# Altium integrated library Microchip PIC24F.IntLib: 529 symbols (part 30 of 32)
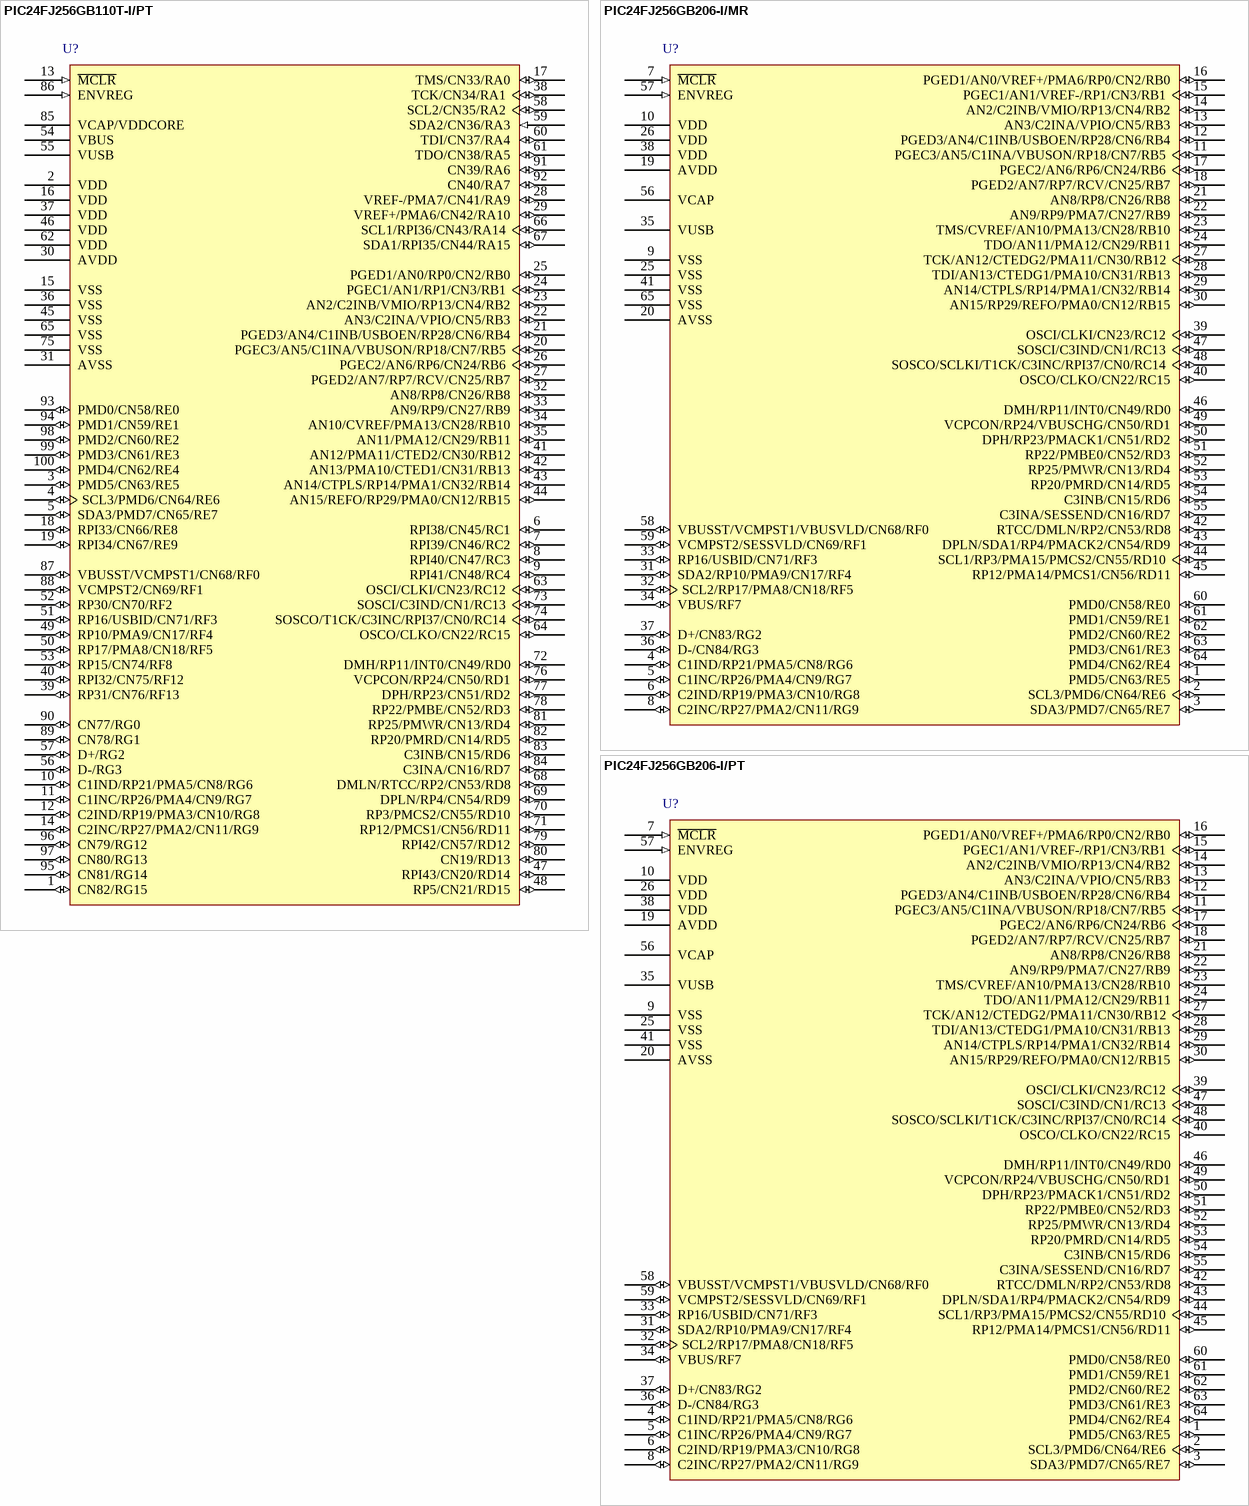
[diagram p150: symbols PIC24FJ256GB110T-I/PT to PIC24FJ256GB206-I/PT]

## PIC24FJ256GB110T-I/PT
designator U?
General Purpose 16-Bit Flash Microcontroller with USB On-The-Go, 256KB Flash, 16KB SRAM, 100-Pin TQFP (12x12x1 mm), Industrial Temperature, Tape and Reel; Manufacturer: Microchip; PartNumber: PIC24FJ256GB110T-I/PT; DatasheetVersion: revC, Dec-2009; PackageVersion: revBB, Aug-2009; PackageReference: TQFP-PT100; PackageDescription: 100-Lead Plastic Thin Quad Flatpack (PT) - 12x12x1mm Body, 2.00mm [TQFP]; Supplier 1: Digi-Key; Supplier Part Number 1: PIC24FJ256GB110T-I/PTTR-ND; Supplier 2: Mouser; Supplier Part Number 2: 579-PIC2256GB110TIPT; Mounting Technology: Surface Mount; ComponentLink1Description: Manufacturer URL; ComponentLink1URL: http://www.microchip.com/; ComponentLink2Description: Datasheet; ComponentLink2URL: http://ww1.microchip.com/downloads/en/DeviceDoc/39897c.pdf; ComponentLink3Description: Package Specification; ComponentLink3URL: http://www.microchip.com/stellent/groups/techpub_sg/documents/packagingspec/en012702.pdf
footprint TQFP-PT100_N (Thin QFP, 100-Leads, Body 12x12mm, Pitch 0.4mm, IPC Medium Density)
footprint TQFP-PT100_L (Thin QFP, 100-Leads, Body 12x12mm, Pitch 0.4mm, IPC High Density)
footprint TQFP-PT100_M (Thin QFP, 100-Leads, Body 12x12mm, Pitch 0.4mm, IPC Low Density)
pins: 1 CN82/RG15 (io), 2 VDD (power), 3 PMD5/CN63/RE5 (io), 4 SCL3/PMD6/CN64/RE6 (io), 5 SDA3/PMD7/CN65/RE7 (io), 6 RPI38/CN45/RC1 (io), 7 RPI39/CN46/RC2 (io), 8 RPI40/CN47/RC3 (io), 9 RPI41/CN48/RC4 (io), 10 C1IND/RP21/PMA5/CN8/RG6 (io), 11 C1INC/RP26/PMA4/CN9/RG7 (io), 12 C2IND/RP19/PMA3/CN10/RG8 (io), 13 ~{MCLR} (in), 14 C2INC/RP27/PMA2/CN11/RG9 (io), 15 VSS (power), 16 VDD (power), 17 TMS/CN33/RA0 (io), 18 RPI33/CN66/RE8 (io), 19 RPI34/CN67/RE9 (io), 20 PGEC3/AN5/C1INA/VBUSON/RP18/CN7/RB5 (io), 21 PGED3/AN4/C1INB/USBOEN/RP28/CN6/RB4 (io), 22 AN3/C2INA/VPIO/CN5/RB3 (io), 23 AN2/C2INB/VMIO/RP13/CN4/RB2 (io), 24 PGEC1/AN1/RP1/CN3/RB1 (io), 25 PGED1/AN0/RP0/CN2/RB0 (io), 26 PGEC2/AN6/RP6/CN24/RB6 (io), 27 PGED2/AN7/RP7/RCV/CN25/RB7 (io), 28 VREF-/PMA7/CN41/RA9 (io), 29 VREF+/PMA6/CN42/RA10 (io), 30 AVDD (power), 31 AVSS (power), 32 AN8/RP8/CN26/RB8 (io), 33 AN9/RP9/CN27/RB9 (io), 34 AN10/CVREF/PMA13/CN28/RB10 (io), 35 AN11/PMA12/CN29/RB11 (io), 36 VSS (power), 37 VDD (power), 38 TCK/CN34/RA1 (io), 39 RP31/CN76/RF13 (io), 40 RPI32/CN75/RF12 (io), 41 AN12/PMA11/CTED2/CN30/RB12 (io), 42 AN13/PMA10/CTED1/CN31/RB13 (io), 43 AN14/CTPLS/RP14/PMA1/CN32/RB14 (io), 44 AN15/REFO/RP29/PMA0/CN12/RB15 (io), 45 VSS (power), 46 VDD (power), 47 RPI43/CN20/RD14 (io), 48 RP5/CN21/RD15 (io), 49 RP10/PMA9/CN17/RF4 (io), 50 RP17/PMA8/CN18/RF5 (io), 51 RP16/USBID/CN71/RF3 (io), 52 RP30/CN70/RF2 (io), 53 RP15/CN74/RF8 (io), 54 VBUS (power), 55 VUSB (power), 56 D-/RG3 (io), 57 D+/RG2 (io), 58 SCL2/CN35/RA2 (io), 59 SDA2/CN36/RA3 (in), 60 TDI/CN37/RA4 (io), 61 TDO/CN38/RA5 (io), 62 VDD (power), 63 OSCI/CLKI/CN23/RC12 (io), 64 OSCO/CLKO/CN22/RC15 (io), 65 VSS (power), 66 SCL1/RPI36/CN43/RA14 (io), 67 SDA1/RPI35/CN44/RA15 (io), 68 DMLN/RTCC/RP2/CN53/RD8 (io), 69 DPLN/RP4/CN54/RD9 (io), 70 RP3/PMCS2/CN55/RD10 (io), 71 RP12/PMCS1/CN56/RD11 (io), 72 DMH/RP11/INT0/CN49/RD0 (io), 73 SOSCI/C3IND/CN1/RC13 (io), 74 SOSCO/T1CK/C3INC/RPI37/CN0/RC14 (io), 75 VSS (power), 76 VCPCON/RP24/CN50/RD1 (io), 77 DPH/RP23/CN51/RD2 (io), 78 RP22/PMBE/CN52/RD3 (io), 79 RPI42/CN57/RD12 (io), 80 CN19/RD13 (io), 81 RP25/PMWR/CN13/RD4 (io), 82 RP20/PMRD/CN14/RD5 (io), 83 C3INB/CN15/RD6 (io), 84 C3INA/CN16/RD7 (io), 85 VCAP/VDDCORE (power), 86 ENVREG (in), 87 VBUSST/VCMPST1/CN68/RF0 (io), 88 VCMPST2/CN69/RF1 (io), 89 CN78/RG1 (io), 90 CN77/RG0 (io), 91 CN39/RA6 (io), 92 CN40/RA7 (io), 93 PMD0/CN58/RE0 (io), 94 PMD1/CN59/RE1 (io), 95 CN81/RG14 (io), 96 CN79/RG12 (io), 97 CN80/RG13 (io), 98 PMD2/CN60/RE2 (io), 99 PMD3/CN61/RE3 (io), 100 PMD4/CN62/RE4 (io)

## PIC24FJ256GB206-I/MR
designator U?
16-Bit Flash Microcontroller with USB On-The-Go, 256KB Flash, 96KB SRAM, 64-Pin QFN, Industrial Temperature; Manufacturer: Microchip; PartNumber: PIC24FJ256GB206-I/MR; DatasheetVersion: revA, May-2010; PackageVersion: revBB, Aug-2009; PackageReference: QFN-MR64; PackageDescription: 64-Lead Plastic Quad Flat, No Lead Package (MR) - 9x9x0.9 mm Body [QFN]; Supplier 1: Digi-Key; Supplier Part Number 1: PIC24FJ256GB206-I/MR-ND; Supplier 2: Farnell; Supplier Part Number 2: 1828975; Supplier 3: Newark; Supplier Part Number 3: 73R8662; Supplier 4: Mouser; Supplier Part Number 4: 579-PIC24FJ6GB206IMR; Mounting Technology: Surface Mount; ComponentLink1Description: Manufacturer URL; ComponentLink1URL: http://www.microchip.com/; ComponentLink2Description: Datasheet; ComponentLink2URL: http://ww1.microchip.com/downloads/en/DeviceDoc/39975a.pdf; ComponentLink3Description: Package Specification; ComponentLink3URL: http://www.microchip.com/stellent/groups/techpub_sg/documents/packagingspec/en012702.pdf
footprint QFN-MR64_N (QFN, 64-Leads, Body 9x9mm, Pitch 0.5mm, Thermal Pad 7.5x7.5mm, IPC Medium Density)
footprint QFN-MR64_L (QFN, 64-Leads, Body 9x9mm, Pitch 0.5mm, Thermal Pad 7.5x7.5mm, IPC High Density)
footprint QFN-MR64_M (QFN, 64-Leads, Body 9x9mm, Pitch 0.5mm, Thermal Pad 7.5x7.5mm, IPC Low Density)
pins: 1 PMD5/CN63/RE5 (io), 2 SCL3/PMD6/CN64/RE6 (io), 3 SDA3/PMD7/CN65/RE7 (io), 4 C1IND/RP21/PMA5/CN8/RG6 (io), 5 C1INC/RP26/PMA4/CN9/RG7 (io), 6 C2IND/RP19/PMA3/CN10/RG8 (io), 7 ~{MCLR} (in), 8 C2INC/RP27/PMA2/CN11/RG9 (io), 9 VSS (power), 10 VDD (power), 11 PGEC3/AN5/C1INA/VBUSON/RP18/CN7/RB5 (io), 12 PGED3/AN4/C1INB/USBOEN/RP28/CN6/RB4 (io), 13 AN3/C2INA/VPIO/CN5/RB3 (io), 14 AN2/C2INB/VMIO/RP13/CN4/RB2 (io), 15 PGEC1/AN1/VREF-/RP1/CN3/RB1 (io), 16 PGED1/AN0/VREF+/PMA6/RP0/CN2/RB0 (io), 17 PGEC2/AN6/RP6/CN24/RB6 (io), 18 PGED2/AN7/RP7/RCV/CN25/RB7 (io), 19 AVDD (power), 20 AVSS (power), 21 AN8/RP8/CN26/RB8 (io), 22 AN9/RP9/PMA7/CN27/RB9 (io), 23 TMS/CVREF/AN10/PMA13/CN28/RB10 (io), 24 TDO/AN11/PMA12/CN29/RB11 (io), 25 VSS (power), 26 VDD (power), 27 TCK/AN12/CTEDG2/PMA11/CN30/RB12 (io), 28 TDI/AN13/CTEDG1/PMA10/CN31/RB13 (io), 29 AN14/CTPLS/RP14/PMA1/CN32/RB14 (io), 30 AN15/RP29/REFO/PMA0/CN12/RB15 (io), 31 SDA2/RP10/PMA9/CN17/RF4 (io), 32 SCL2/RP17/PMA8/CN18/RF5 (io), 33 RP16/USBID/CN71/RF3 (io), 34 VBUS/RF7 (io), 35 VUSB (power), 36 D-/CN84/RG3 (io), 37 D+/CN83/RG2 (io), 38 VDD (power), 39 OSCI/CLKI/CN23/RC12 (io), 40 OSCO/CLKO/CN22/RC15 (io), 41 VSS (power), 42 RTCC/DMLN/RP2/CN53/RD8 (io), 43 DPLN/SDA1/RP4/PMACK2/CN54/RD9 (io), 44 SCL1/RP3/PMA15/PMCS2/CN55/RD10 (io), 45 RP12/PMA14/PMCS1/CN56/RD11 (io), 46 DMH/RP11/INT0/CN49/RD0 (io), 47 SOSCI/C3IND/CN1/RC13 (io), 48 SOSCO/SCLKI/T1CK/C3INC/RPI37/CN0/RC14 (io), 49 VCPCON/RP24/VBUSCHG/CN50/RD1 (io), 50 DPH/RP23/PMACK1/CN51/RD2 (io), 51 RP22/PMBE0/CN52/RD3 (io), 52 RP25/PMWR/CN13/RD4 (io), 53 RP20/PMRD/CN14/RD5 (io), 54 C3INB/CN15/RD6 (io), 55 C3INA/SESSEND/CN16/RD7 (io), 56 VCAP (power), 57 ENVREG (in), 58 VBUSST/VCMPST1/VBUSVLD/CN68/RF0 (io), 59 VCMPST2/SESSVLD/CN69/RF1 (io), 60 PMD0/CN58/RE0 (io), 61 PMD1/CN59/RE1 (io), 62 PMD2/CN60/RE2 (io), 63 PMD3/CN61/RE3 (io), 64 PMD4/CN62/RE4 (io), 65 VSS (power)

## PIC24FJ256GB206-I/PT
designator U?
16-Bit Flash Microcontroller with USB On-The-Go, 256KB Flash, 96KB SRAM, 64-Pin TQFP, Industrial Temperature; Manufacturer: Microchip; PartNumber: PIC24FJ256GB206-I/PT; DatasheetVersion: revA, May-2010; PackageVersion: revBB, Aug-2009; PackageReference: TQFP-PT64; PackageDescription: 64-Lead Thin Plastic Quad Flat Pack (PT) - 10x10x1mm Body, 2.00mm [TQFP]; Supplier 1: Digi-Key; Supplier Part Number 1: PIC24FJ256GB206-I/PT-ND; Supplier 2: Farnell; Supplier Part Number 2: 1823290; Supplier 3: Farnell; Supplier Part Number 3: 1823290MPKG; Supplier 4: Newark; Supplier Part Number 4: 73R8663; Supplier 5: Mouser; Supplier Part Number 5: 579-PIC24FJ256GB2IPT; Mounting Technology: Surface Mount; Code_JEDEC: MS-026; ComponentLink1Description: Manufacturer URL; ComponentLink1URL: http://www.microchip.com/; ComponentLink2Description: Datasheet; ComponentLink2URL: http://ww1.microchip.com/downloads/en/DeviceDoc/39975a.pdf; ComponentLink3Description: Package Specification; ComponentLink3URL: http://www.microchip.com/stellent/groups/techpub_sg/documents/packagingspec/en012702.pdf
footprint TQFP-PT64_N (Thin QFP, 64-Leads, Body 10x10mm, Pitch 0.5mm, IPC Medium Density)
footprint TQFP-PT64_L (Thin QFP, 64-Leads, Body 10x10mm, Pitch 0.5mm, IPC High Density)
footprint TQFP-PT64_M (Thin QFP, 64-Leads, Body 10x10mm, Pitch 0.5mm, IPC Low Density)
pins: 1 PMD5/CN63/RE5 (io), 2 SCL3/PMD6/CN64/RE6 (io), 3 SDA3/PMD7/CN65/RE7 (io), 4 C1IND/RP21/PMA5/CN8/RG6 (io), 5 C1INC/RP26/PMA4/CN9/RG7 (io), 6 C2IND/RP19/PMA3/CN10/RG8 (io), 7 ~{MCLR} (in), 8 C2INC/RP27/PMA2/CN11/RG9 (io), 9 VSS (power), 10 VDD (power), 11 PGEC3/AN5/C1INA/VBUSON/RP18/CN7/RB5 (io), 12 PGED3/AN4/C1INB/USBOEN/RP28/CN6/RB4 (io), 13 AN3/C2INA/VPIO/CN5/RB3 (io), 14 AN2/C2INB/VMIO/RP13/CN4/RB2 (io), 15 PGEC1/AN1/VREF-/RP1/CN3/RB1 (io), 16 PGED1/AN0/VREF+/PMA6/RP0/CN2/RB0 (io), 17 PGEC2/AN6/RP6/CN24/RB6 (io), 18 PGED2/AN7/RP7/RCV/CN25/RB7 (io), 19 AVDD (power), 20 AVSS (power), 21 AN8/RP8/CN26/RB8 (io), 22 AN9/RP9/PMA7/CN27/RB9 (io), 23 TMS/CVREF/AN10/PMA13/CN28/RB10 (io), 24 TDO/AN11/PMA12/CN29/RB11 (io), 25 VSS (power), 26 VDD (power), 27 TCK/AN12/CTEDG2/PMA11/CN30/RB12 (io), 28 TDI/AN13/CTEDG1/PMA10/CN31/RB13 (io), 29 AN14/CTPLS/RP14/PMA1/CN32/RB14 (io), 30 AN15/RP29/REFO/PMA0/CN12/RB15 (io), 31 SDA2/RP10/PMA9/CN17/RF4 (io), 32 SCL2/RP17/PMA8/CN18/RF5 (io), 33 RP16/USBID/CN71/RF3 (io), 34 VBUS/RF7 (io), 35 VUSB (power), 36 D-/CN84/RG3 (io), 37 D+/CN83/RG2 (io), 38 VDD (power), 39 OSCI/CLKI/CN23/RC12 (io), 40 OSCO/CLKO/CN22/RC15 (io), 41 VSS (power), 42 RTCC/DMLN/RP2/CN53/RD8 (io), 43 DPLN/SDA1/RP4/PMACK2/CN54/RD9 (io), 44 SCL1/RP3/PMA15/PMCS2/CN55/RD10 (io), 45 RP12/PMA14/PMCS1/CN56/RD11 (io), 46 DMH/RP11/INT0/CN49/RD0 (io), 47 SOSCI/C3IND/CN1/RC13 (io), 48 SOSCO/SCLKI/T1CK/C3INC/RPI37/CN0/RC14 (io), 49 VCPCON/RP24/VBUSCHG/CN50/RD1 (io), 50 DPH/RP23/PMACK1/CN51/RD2 (io), 51 RP22/PMBE0/CN52/RD3 (io), 52 RP25/PMWR/CN13/RD4 (io), 53 RP20/PMRD/CN14/RD5 (io), 54 C3INB/CN15/RD6 (io), 55 C3INA/SESSEND/CN16/RD7 (io), 56 VCAP (power), 57 ENVREG (in), 58 VBUSST/VCMPST1/VBUSVLD/CN68/RF0 (io), 59 VCMPST2/SESSVLD/CN69/RF1 (io), 60 PMD0/CN58/RE0 (io), 61 PMD1/CN59/RE1 (io), 62 PMD2/CN60/RE2 (io), 63 PMD3/CN61/RE3 (io), 64 PMD4/CN62/RE4 (io)

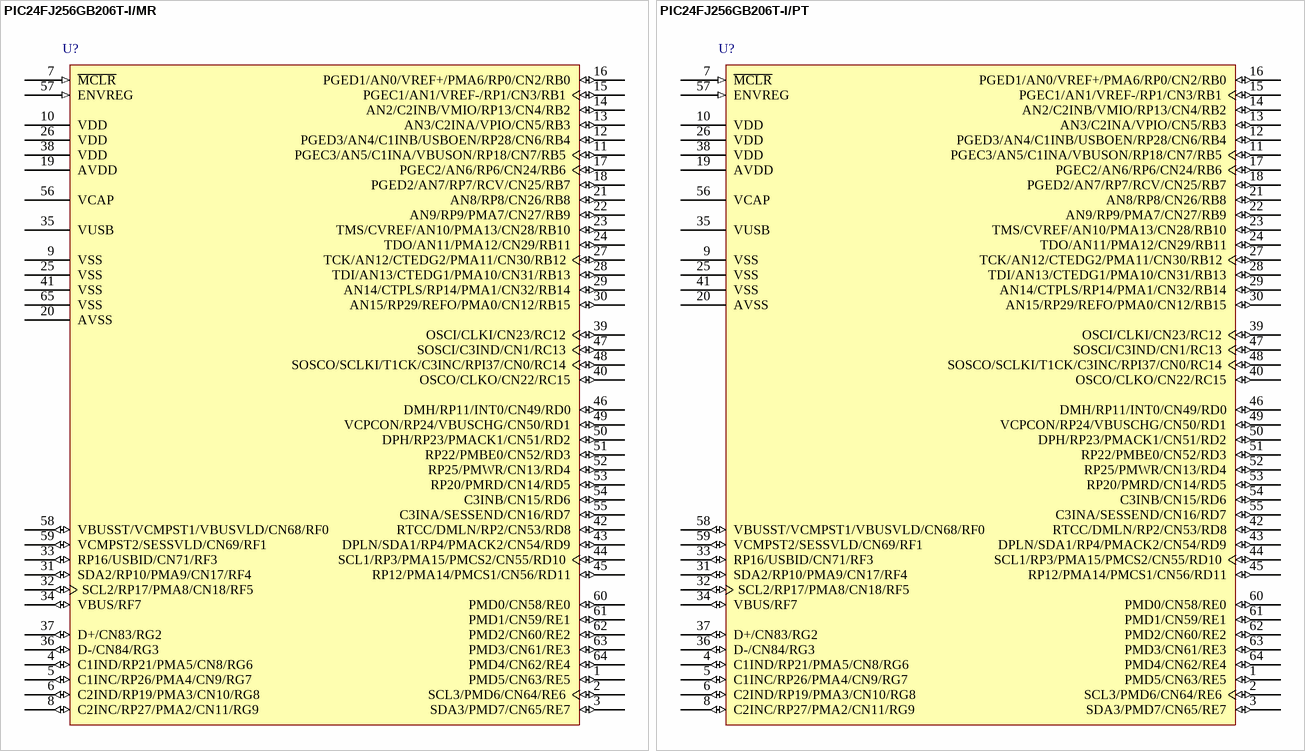
[diagram p115: symbols PIC24FJ256GB206T-I/MR to PIC24FJ256GB206T-I/PT]

## PIC24FJ256GB206T-I/MR
designator U?
16-Bit Flash Microcontroller with USB On-The-Go, 256KB Flash, 96KB SRAM, 64-Pin QFN, Industrial Temperature, Tape and Reel; Manufacturer: Microchip; PartNumber: PIC24FJ256GB206T-I/MR; DatasheetVersion: revA, May-2010; PackageVersion: revBB, Aug-2009; PackageReference: QFN-MR64; PackageDescription: 64-Lead Plastic Quad Flat, No Lead Package (MR) - 9x9x0.9 mm Body [QFN]; Supplier 1: Digi-Key; Supplier Part Number 1: PIC24FJ256GB206T-I/MR-ND; Supplier 2: Mouser; Supplier Part Number 2: 579-PIC24FJ25B26TIMR; Mounting Technology: Surface Mount; ComponentLink1Description: Manufacturer URL; ComponentLink1URL: http://www.microchip.com/; ComponentLink2Description: Datasheet; ComponentLink2URL: http://ww1.microchip.com/downloads/en/DeviceDoc/39975a.pdf; ComponentLink3Description: Package Specification; ComponentLink3URL: http://www.microchip.com/stellent/groups/techpub_sg/documents/packagingspec/en012702.pdf
footprint QFN-MR64_N (QFN, 64-Leads, Body 9x9mm, Pitch 0.5mm, Thermal Pad 7.5x7.5mm, IPC Medium Density)
footprint QFN-MR64_L (QFN, 64-Leads, Body 9x9mm, Pitch 0.5mm, Thermal Pad 7.5x7.5mm, IPC High Density)
footprint QFN-MR64_M (QFN, 64-Leads, Body 9x9mm, Pitch 0.5mm, Thermal Pad 7.5x7.5mm, IPC Low Density)
pins: 1 PMD5/CN63/RE5 (io), 2 SCL3/PMD6/CN64/RE6 (io), 3 SDA3/PMD7/CN65/RE7 (io), 4 C1IND/RP21/PMA5/CN8/RG6 (io), 5 C1INC/RP26/PMA4/CN9/RG7 (io), 6 C2IND/RP19/PMA3/CN10/RG8 (io), 7 ~{MCLR} (in), 8 C2INC/RP27/PMA2/CN11/RG9 (io), 9 VSS (power), 10 VDD (power), 11 PGEC3/AN5/C1INA/VBUSON/RP18/CN7/RB5 (io), 12 PGED3/AN4/C1INB/USBOEN/RP28/CN6/RB4 (io), 13 AN3/C2INA/VPIO/CN5/RB3 (io), 14 AN2/C2INB/VMIO/RP13/CN4/RB2 (io), 15 PGEC1/AN1/VREF-/RP1/CN3/RB1 (io), 16 PGED1/AN0/VREF+/PMA6/RP0/CN2/RB0 (io), 17 PGEC2/AN6/RP6/CN24/RB6 (io), 18 PGED2/AN7/RP7/RCV/CN25/RB7 (io), 19 AVDD (power), 20 AVSS (power), 21 AN8/RP8/CN26/RB8 (io), 22 AN9/RP9/PMA7/CN27/RB9 (io), 23 TMS/CVREF/AN10/PMA13/CN28/RB10 (io), 24 TDO/AN11/PMA12/CN29/RB11 (io), 25 VSS (power), 26 VDD (power), 27 TCK/AN12/CTEDG2/PMA11/CN30/RB12 (io), 28 TDI/AN13/CTEDG1/PMA10/CN31/RB13 (io), 29 AN14/CTPLS/RP14/PMA1/CN32/RB14 (io), 30 AN15/RP29/REFO/PMA0/CN12/RB15 (io), 31 SDA2/RP10/PMA9/CN17/RF4 (io), 32 SCL2/RP17/PMA8/CN18/RF5 (io), 33 RP16/USBID/CN71/RF3 (io), 34 VBUS/RF7 (io), 35 VUSB (power), 36 D-/CN84/RG3 (io), 37 D+/CN83/RG2 (io), 38 VDD (power), 39 OSCI/CLKI/CN23/RC12 (io), 40 OSCO/CLKO/CN22/RC15 (io), 41 VSS (power), 42 RTCC/DMLN/RP2/CN53/RD8 (io), 43 DPLN/SDA1/RP4/PMACK2/CN54/RD9 (io), 44 SCL1/RP3/PMA15/PMCS2/CN55/RD10 (io), 45 RP12/PMA14/PMCS1/CN56/RD11 (io), 46 DMH/RP11/INT0/CN49/RD0 (io), 47 SOSCI/C3IND/CN1/RC13 (io), 48 SOSCO/SCLKI/T1CK/C3INC/RPI37/CN0/RC14 (io), 49 VCPCON/RP24/VBUSCHG/CN50/RD1 (io), 50 DPH/RP23/PMACK1/CN51/RD2 (io), 51 RP22/PMBE0/CN52/RD3 (io), 52 RP25/PMWR/CN13/RD4 (io), 53 RP20/PMRD/CN14/RD5 (io), 54 C3INB/CN15/RD6 (io), 55 C3INA/SESSEND/CN16/RD7 (io), 56 VCAP (power), 57 ENVREG (in), 58 VBUSST/VCMPST1/VBUSVLD/CN68/RF0 (io), 59 VCMPST2/SESSVLD/CN69/RF1 (io), 60 PMD0/CN58/RE0 (io), 61 PMD1/CN59/RE1 (io), 62 PMD2/CN60/RE2 (io), 63 PMD3/CN61/RE3 (io), 64 PMD4/CN62/RE4 (io), 65 VSS (power)

## PIC24FJ256GB206T-I/PT
designator U?
16-Bit Flash Microcontroller with USB On-The-Go, 256KB Flash, 96KB SRAM, 64-Pin TQFP, Industrial Temperature, Tape and Reel; Manufacturer: Microchip; PartNumber: PIC24FJ256GB206T-I/PT; DatasheetVersion: revA, May-2010; PackageVersion: revBB, Aug-2009; PackageReference: TQFP-PT64; PackageDescription: 64-Lead Thin Plastic Quad Flat Pack (PT) - 10x10x1mm Body, 2.00mm [TQFP]; Supplier 1: Digi-Key; Supplier Part Number 1: PIC24FJ256GB206T-I/PT-ND; Supplier 2: Newark; Supplier Part Number 2: 73R8665; Supplier 3: Mouser; Supplier Part Number 3: 579-PIC24FJ256G20IPT; Mounting Technology: Surface Mount; Code_JEDEC: MS-026; ComponentLink1Description: Manufacturer URL; ComponentLink1URL: http://www.microchip.com/; ComponentLink2Description: Datasheet; ComponentLink2URL: http://ww1.microchip.com/downloads/en/DeviceDoc/39975a.pdf; ComponentLink3Description: Package Specification; ComponentLink3URL: http://www.microchip.com/stellent/groups/techpub_sg/documents/packagingspec/en012702.pdf
footprint TQFP-PT64_N (Thin QFP, 64-Leads, Body 10x10mm, Pitch 0.5mm, IPC Medium Density)
footprint TQFP-PT64_L (Thin QFP, 64-Leads, Body 10x10mm, Pitch 0.5mm, IPC High Density)
footprint TQFP-PT64_M (Thin QFP, 64-Leads, Body 10x10mm, Pitch 0.5mm, IPC Low Density)
pins: 1 PMD5/CN63/RE5 (io), 2 SCL3/PMD6/CN64/RE6 (io), 3 SDA3/PMD7/CN65/RE7 (io), 4 C1IND/RP21/PMA5/CN8/RG6 (io), 5 C1INC/RP26/PMA4/CN9/RG7 (io), 6 C2IND/RP19/PMA3/CN10/RG8 (io), 7 ~{MCLR} (in), 8 C2INC/RP27/PMA2/CN11/RG9 (io), 9 VSS (power), 10 VDD (power), 11 PGEC3/AN5/C1INA/VBUSON/RP18/CN7/RB5 (io), 12 PGED3/AN4/C1INB/USBOEN/RP28/CN6/RB4 (io), 13 AN3/C2INA/VPIO/CN5/RB3 (io), 14 AN2/C2INB/VMIO/RP13/CN4/RB2 (io), 15 PGEC1/AN1/VREF-/RP1/CN3/RB1 (io), 16 PGED1/AN0/VREF+/PMA6/RP0/CN2/RB0 (io), 17 PGEC2/AN6/RP6/CN24/RB6 (io), 18 PGED2/AN7/RP7/RCV/CN25/RB7 (io), 19 AVDD (power), 20 AVSS (power), 21 AN8/RP8/CN26/RB8 (io), 22 AN9/RP9/PMA7/CN27/RB9 (io), 23 TMS/CVREF/AN10/PMA13/CN28/RB10 (io), 24 TDO/AN11/PMA12/CN29/RB11 (io), 25 VSS (power), 26 VDD (power), 27 TCK/AN12/CTEDG2/PMA11/CN30/RB12 (io), 28 TDI/AN13/CTEDG1/PMA10/CN31/RB13 (io), 29 AN14/CTPLS/RP14/PMA1/CN32/RB14 (io), 30 AN15/RP29/REFO/PMA0/CN12/RB15 (io), 31 SDA2/RP10/PMA9/CN17/RF4 (io), 32 SCL2/RP17/PMA8/CN18/RF5 (io), 33 RP16/USBID/CN71/RF3 (io), 34 VBUS/RF7 (io), 35 VUSB (power), 36 D-/CN84/RG3 (io), 37 D+/CN83/RG2 (io), 38 VDD (power), 39 OSCI/CLKI/CN23/RC12 (io), 40 OSCO/CLKO/CN22/RC15 (io), 41 VSS (power), 42 RTCC/DMLN/RP2/CN53/RD8 (io), 43 DPLN/SDA1/RP4/PMACK2/CN54/RD9 (io), 44 SCL1/RP3/PMA15/PMCS2/CN55/RD10 (io), 45 RP12/PMA14/PMCS1/CN56/RD11 (io), 46 DMH/RP11/INT0/CN49/RD0 (io), 47 SOSCI/C3IND/CN1/RC13 (io), 48 SOSCO/SCLKI/T1CK/C3INC/RPI37/CN0/RC14 (io), 49 VCPCON/RP24/VBUSCHG/CN50/RD1 (io), 50 DPH/RP23/PMACK1/CN51/RD2 (io), 51 RP22/PMBE0/CN52/RD3 (io), 52 RP25/PMWR/CN13/RD4 (io), 53 RP20/PMRD/CN14/RD5 (io), 54 C3INB/CN15/RD6 (io), 55 C3INA/SESSEND/CN16/RD7 (io), 56 VCAP (power), 57 ENVREG (in), 58 VBUSST/VCMPST1/VBUSVLD/CN68/RF0 (io), 59 VCMPST2/SESSVLD/CN69/RF1 (io), 60 PMD0/CN58/RE0 (io), 61 PMD1/CN59/RE1 (io), 62 PMD2/CN60/RE2 (io), 63 PMD3/CN61/RE3 (io), 64 PMD4/CN62/RE4 (io)

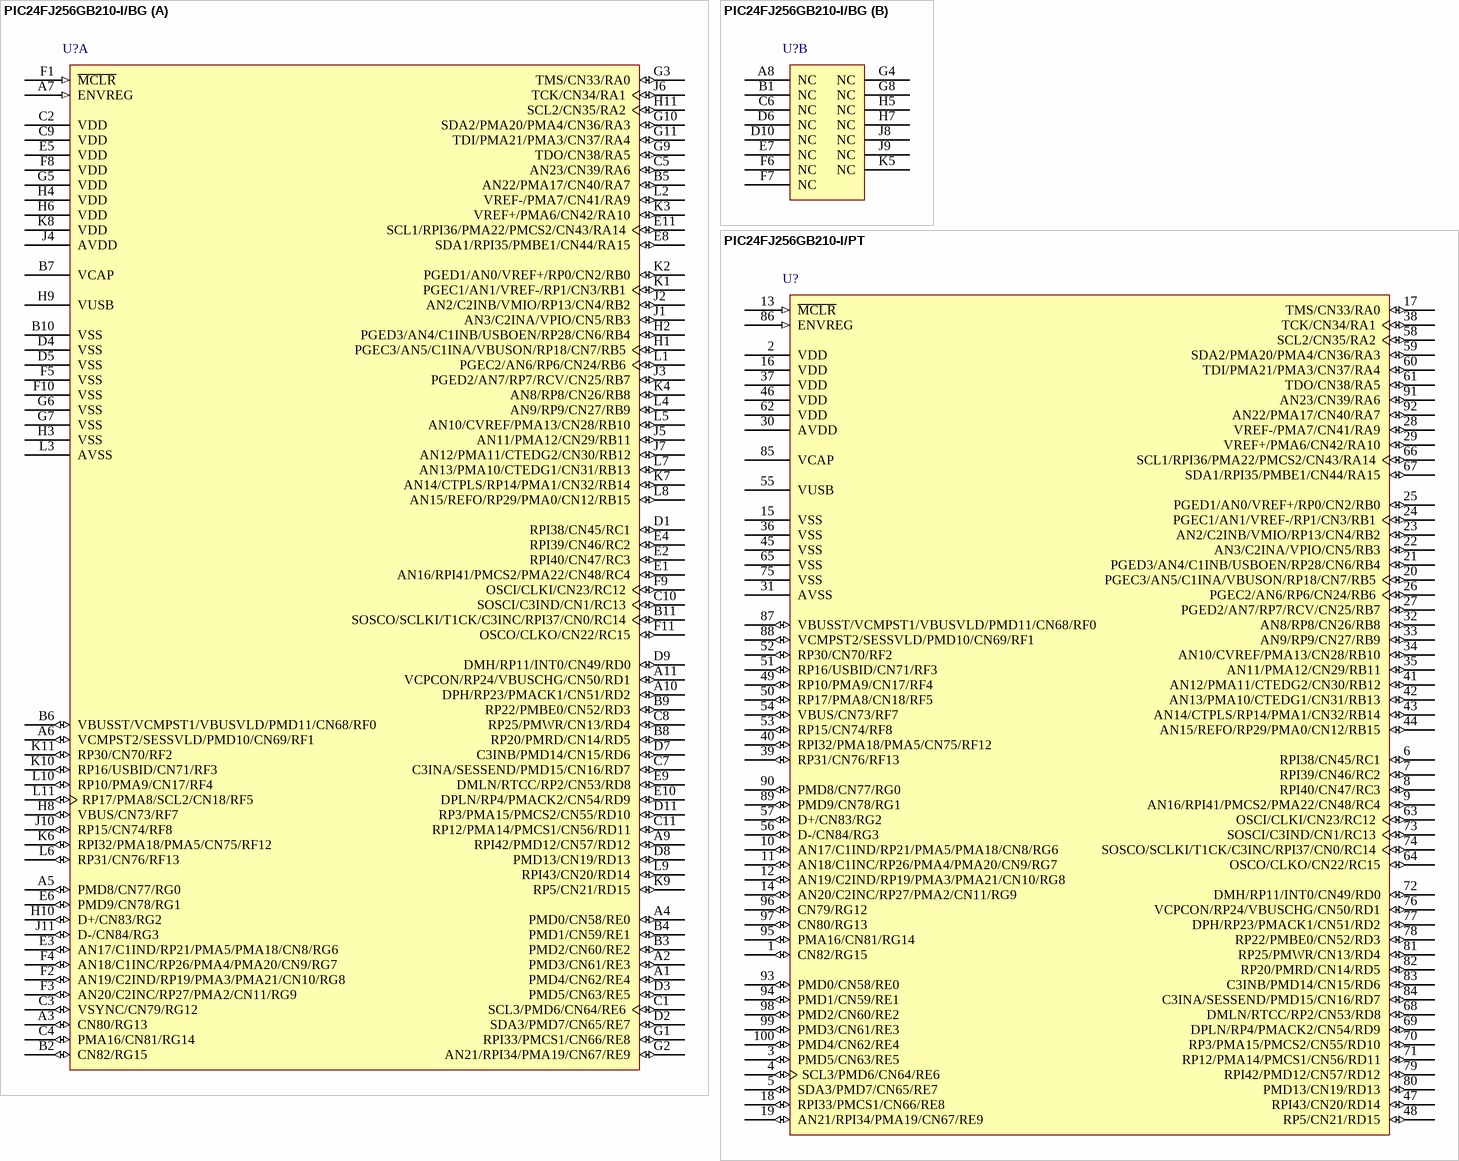
[diagram p116: symbols PIC24FJ256GB210-I/BG to PIC24FJ256GB210-I/PT]

## PIC24FJ256GB210-I/BG
designator U?
16-Bit Flash Microcontroller with USB On-The-Go, 256KB Flash, 96KB SRAM, 121-Pin XBGA, Industrial Temperature; Manufacturer: Microchip; PartNumber: PIC24FJ256GB210-I/BG; DatasheetVersion: revA, May-2010; PackageVersion: revBB, Aug-2009; PackageReference: XBGA-BG121; PackageDescription: 121-Lead Plastic Thin Profile Ball Grid Array (BG) - 10x10x1.10 mm Body [XBGA]; Supplier 1: Digi-Key; Supplier Part Number 1: PIC24FJ256GB210-I/BG-ND; Supplier 2: Farnell; Supplier Part Number 2: 1823278; Supplier 3: Mouser; Supplier Part Number 3: 579-PIC24FJ256GB0IBG; Mounting Technology: Surface Mount; ComponentLink1Description: Manufacturer URL; ComponentLink1URL: http://www.microchip.com/; ComponentLink2Description: Datasheet; ComponentLink2URL: http://ww1.microchip.com/downloads/en/DeviceDoc/39975a.pdf; ComponentLink3Description: Package Specification; ComponentLink3URL: http://www.microchip.com/stellent/groups/techpub_sg/documents/packagingspec/en012702.pdf
footprint XBGA-BG121 (BGA, 121-Leads, Body 10x10mm, Pitch 0.8mm)
part A pins: A1 PMD4/CN62/RE4 (io), A2 PMD3/CN61/RE3 (io), A3 CN80/RG13 (io), A4 PMD0/CN58/RE0 (io), A5 PMD8/CN77/RG0 (io), A6 VCMPST2/SESSVLD/PMD10/CN69/RF1 (io), A7 ENVREG (in), A9 RPI42/PMD12/CN57/RD12 (io), A10 DPH/RP23/PMACK1/CN51/RD2 (io), A11 VCPCON/RP24/VBUSCHG/CN50/RD1 (io), B2 CN82/RG15 (io), B3 PMD2/CN60/RE2 (io), B4 PMD1/CN59/RE1 (io), B5 AN22/PMA17/CN40/RA7 (io), B6 VBUSST/VCMPST1/VBUSVLD/PMD11/CN68/RF0 (io), B7 VCAP (power), B8 RP20/PMRD/CN14/RD5 (io), B9 RP22/PMBE0/CN52/RD3 (io), B10 VSS (power), B11 SOSCO/SCLKI/T1CK/C3INC/RPI37/CN0/RC14 (io), C1 SCL3/PMD6/CN64/RE6 (io), C2 VDD (power), C3 VSYNC/CN79/RG12 (io), C4 PMA16/CN81/RG14 (io), C5 AN23/CN39/RA6 (io), C7 C3INA/SESSEND/PMD15/CN16/RD7 (io), C8 RP25/PMWR/CN13/RD4 (io), C9 VDD (power), C10 SOSCI/C3IND/CN1/RC13 (io), C11 RP12/PMA14/PMCS1/CN56/RD11 (io), D1 RPI38/CN45/RC1 (io), D2 SDA3/PMD7/CN65/RE7 (io), D3 PMD5/CN63/RE5 (io), D4 VSS (power), D5 VSS (power), D7 C3INB/PMD14/CN15/RD6 (io), D8 PMD13/CN19/RD13 (io), D9 DMH/RP11/INT0/CN49/RD0 (io), D11 RP3/PMA15/PMCS2/CN55/RD10 (io), E1 AN16/RPI41/PMCS2/PMA22/CN48/RC4 (io), E2 RPI40/CN47/RC3 (io), E3 AN17/C1IND/RP21/PMA5/PMA18/CN8/RG6 (io), E4 RPI39/CN46/RC2 (io), E5 VDD (power), E6 PMD9/CN78/RG1 (io), E8 SDA1/RPI35/PMBE1/CN44/RA15 (io), E9 DMLN/RTCC/RP2/CN53/RD8 (io), E10 DPLN/RP4/PMACK2/CN54/RD9 (io), E11 SCL1/RPI36/PMA22/PMCS2/CN43/RA14 (io), F1 ~{MCLR} (in), F2 AN19/C2IND/RP19/PMA3/PMA21/CN10/RG8 (io), F3 AN20/C2INC/RP27/PMA2/CN11/RG9 (io), F4 AN18/C1INC/RP26/PMA4/PMA20/CN9/RG7 (io), F5 VSS (power), F8 VDD (power), F9 OSCI/CLKI/CN23/RC12 (io), F10 VSS (power), F11 OSCO/CLKO/CN22/RC15 (io), G1 RPI33/PMCS1/CN66/RE8 (io), G2 AN21/RPI34/PMA19/CN67/RE9 (io), G3 TMS/CN33/RA0 (io), G5 VDD (power), G6 VSS (power), G7 VSS (power), G9 TDO/CN38/RA5 (io), G10 SDA2/PMA20/PMA4/CN36/RA3 (io), G11 TDI/PMA21/PMA3/CN37/RA4 (io), H1 PGEC3/AN5/C1INA/VBUSON/RP18/CN7/RB5 (io), H2 PGED3/AN4/C1INB/USBOEN/RP28/CN6/RB4 (io), H3 VSS (power), H4 VDD (power), H6 VDD (power), H8 VBUS/CN73/RF7 (io), H9 VUSB (power), H10 D+/CN83/RG2 (io), H11 SCL2/CN35/RA2 (io), J1 AN3/C2INA/VPIO/CN5/RB3 (io), J2 AN2/C2INB/VMIO/RP13/CN4/RB2 (io), J3 PGED2/AN7/RP7/RCV/CN25/RB7 (io), J4 AVDD (power), J5 AN11/PMA12/CN29/RB11 (io), J6 TCK/CN34/RA1 (io), J7 AN12/PMA11/CTEDG2/CN30/RB12 (io), J10 RP15/CN74/RF8 (io), J11 D-/CN84/RG3 (io), K1 PGEC1/AN1/VREF-/RP1/CN3/RB1 (io), K2 PGED1/AN0/VREF+/RP0/CN2/RB0 (io), K3 VREF+/PMA6/CN42/RA10 (io), K4 AN8/RP8/CN26/RB8 (io), K6 RPI32/PMA18/PMA5/CN75/RF12 (io), K7 AN14/CTPLS/RP14/PMA1/CN32/RB14 (io), K8 VDD (power), K9 RP5/CN21/RD15 (io), K10 RP16/USBID/CN71/RF3 (io), K11 RP30/CN70/RF2 (io), L1 PGEC2/AN6/RP6/CN24/RB6 (io), L2 VREF-/PMA7/CN41/RA9 (io), L3 AVSS (power), L4 AN9/RP9/CN27/RB9 (io), L5 AN10/CVREF/PMA13/CN28/RB10 (io), L6 RP31/CN76/RF13 (io), L7 AN13/PMA10/CTEDG1/CN31/RB13 (io), L8 AN15/REFO/RP29/PMA0/CN12/RB15 (io), L9 RPI43/CN20/RD14 (io), L10 RP10/PMA9/CN17/RF4 (io), L11 RP17/PMA8/SCL2/CN18/RF5 (io)
part B pins: A8 NC, B1 NC, C6 NC, D6 NC, D10 NC, E7 NC, F6 NC, F7 NC, G4 NC, G8 NC, H5 NC, H7 NC, J8 NC, J9 NC, K5 NC

## PIC24FJ256GB210-I/PT
designator U?
16-Bit Flash Microcontroller with USB On-The-Go, 256KB Flash, 96KB SRAM, 100-Pin TQFP, Industrial Temperature; Manufacturer: Microchip; PartNumber: PIC24FJ256GB210-I/PT; DatasheetVersion: revA, May-2010; PackageVersion: revBB, Aug-2009; PackageReference: TQFP-PT100; PackageDescription: 100-Lead Plastic Thin Quad Flatpack (PT) - 12x12x1mm Body, 2.00mm [TQFP]; Supplier 1: Digi-Key; Supplier Part Number 1: PIC24FJ256GB210-I/PT-ND; Supplier 2: Farnell; Supplier Part Number 2: 1823285MPKG; Supplier 3: Farnell; Supplier Part Number 3: 1823285; Supplier 4: Newark; Supplier Part Number 4: 73R8667; Supplier 5: Mouser; Supplier Part Number 5: 579-PIC24FJ25B210IPT; Mounting Technology: Surface Mount; ComponentLink1Description: Manufacturer URL; ComponentLink1URL: http://www.microchip.com/; ComponentLink2Description: Datasheet; ComponentLink2URL: http://ww1.microchip.com/downloads/en/DeviceDoc/39975a.pdf; ComponentLink3Description: Package Specification; ComponentLink3URL: http://www.microchip.com/stellent/groups/techpub_sg/documents/packagingspec/en012702.pdf
footprint TQFP-PT100_N (Thin QFP, 100-Leads, Body 12x12mm, Pitch 0.4mm, IPC Medium Density)
footprint TQFP-PT100_L (Thin QFP, 100-Leads, Body 12x12mm, Pitch 0.4mm, IPC High Density)
footprint TQFP-PT100_M (Thin QFP, 100-Leads, Body 12x12mm, Pitch 0.4mm, IPC Low Density)
pins: 1 CN82/RG15 (io), 2 VDD (power), 3 PMD5/CN63/RE5 (io), 4 SCL3/PMD6/CN64/RE6 (io), 5 SDA3/PMD7/CN65/RE7 (io), 6 RPI38/CN45/RC1 (io), 7 RPI39/CN46/RC2 (io), 8 RPI40/CN47/RC3 (io), 9 AN16/RPI41/PMCS2/PMA22/CN48/RC4 (io), 10 AN17/C1IND/RP21/PMA5/PMA18/CN8/RG6 (io), 11 AN18/C1INC/RP26/PMA4/PMA20/CN9/RG7 (io), 12 AN19/C2IND/RP19/PMA3/PMA21/CN10/RG8 (io), 13 ~{MCLR} (in), 14 AN20/C2INC/RP27/PMA2/CN11/RG9 (io), 15 VSS (power), 16 VDD (power), 17 TMS/CN33/RA0 (io), 18 RPI33/PMCS1/CN66/RE8 (io), 19 AN21/RPI34/PMA19/CN67/RE9 (io), 20 PGEC3/AN5/C1INA/VBUSON/RP18/CN7/RB5 (io), 21 PGED3/AN4/C1INB/USBOEN/RP28/CN6/RB4 (io), 22 AN3/C2INA/VPIO/CN5/RB3 (io), 23 AN2/C2INB/VMIO/RP13/CN4/RB2 (io), 24 PGEC1/AN1/VREF-/RP1/CN3/RB1 (io), 25 PGED1/AN0/VREF+/RP0/CN2/RB0 (io), 26 PGEC2/AN6/RP6/CN24/RB6 (io), 27 PGED2/AN7/RP7/RCV/CN25/RB7 (io), 28 VREF-/PMA7/CN41/RA9 (io), 29 VREF+/PMA6/CN42/RA10 (io), 30 AVDD (power), 31 AVSS (power), 32 AN8/RP8/CN26/RB8 (io), 33 AN9/RP9/CN27/RB9 (io), 34 AN10/CVREF/PMA13/CN28/RB10 (io), 35 AN11/PMA12/CN29/RB11 (io), 36 VSS (power), 37 VDD (power), 38 TCK/CN34/RA1 (io), 39 RP31/CN76/RF13 (io), 40 RPI32/PMA18/PMA5/CN75/RF12 (io), 41 AN12/PMA11/CTEDG2/CN30/RB12 (io), 42 AN13/PMA10/CTEDG1/CN31/RB13 (io), 43 AN14/CTPLS/RP14/PMA1/CN32/RB14 (io), 44 AN15/REFO/RP29/PMA0/CN12/RB15 (io), 45 VSS (power), 46 VDD (power), 47 RPI43/CN20/RD14 (io), 48 RP5/CN21/RD15 (io), 49 RP10/PMA9/CN17/RF4 (io), 50 RP17/PMA8/CN18/RF5 (io), 51 RP16/USBID/CN71/RF3 (io), 52 RP30/CN70/RF2 (io), 53 RP15/CN74/RF8 (io), 54 VBUS/CN73/RF7 (io), 55 VUSB (power), 56 D-/CN84/RG3 (io), 57 D+/CN83/RG2 (io), 58 SCL2/CN35/RA2 (io), 59 SDA2/PMA20/PMA4/CN36/RA3 (io), 60 TDI/PMA21/PMA3/CN37/RA4 (io), 61 TDO/CN38/RA5 (io), 62 VDD (power), 63 OSCI/CLKI/CN23/RC12 (io), 64 OSCO/CLKO/CN22/RC15 (io), 65 VSS (power), 66 SCL1/RPI36/PMA22/PMCS2/CN43/RA14 (io), 67 SDA1/RPI35/PMBE1/CN44/RA15 (io), 68 DMLN/RTCC/RP2/CN53/RD8 (io), 69 DPLN/RP4/PMACK2/CN54/RD9 (io), 70 RP3/PMA15/PMCS2/CN55/RD10 (io), 71 RP12/PMA14/PMCS1/CN56/RD11 (io), 72 DMH/RP11/INT0/CN49/RD0 (io), 73 SOSCI/C3IND/CN1/RC13 (io), 74 SOSCO/SCLKI/T1CK/C3INC/RPI37/CN0/RC14 (io), 75 VSS (power), 76 VCPCON/RP24/VBUSCHG/CN50/RD1 (io), 77 DPH/RP23/PMACK1/CN51/RD2 (io), 78 RP22/PMBE0/CN52/RD3 (io), 79 RPI42/PMD12/CN57/RD12 (io), 80 PMD13/CN19/RD13 (io), 81 RP25/PMWR/CN13/RD4 (io), 82 RP20/PMRD/CN14/RD5 (io), 83 C3INB/PMD14/CN15/RD6 (io), 84 C3INA/SESSEND/PMD15/CN16/RD7 (io), 85 VCAP (power), 86 ENVREG (in), 87 VBUSST/VCMPST1/VBUSVLD/PMD11/CN68/RF0 (io), 88 VCMPST2/SESSVLD/PMD10/CN69/RF1 (io), 89 PMD9/CN78/RG1 (io), 90 PMD8/CN77/RG0 (io), 91 AN23/CN39/RA6 (io), 92 AN22/PMA17/CN40/RA7 (io), 93 PMD0/CN58/RE0 (io), 94 PMD1/CN59/RE1 (io), 95 PMA16/CN81/RG14 (io), 96 CN79/RG12 (io), 97 CN80/RG13 (io), 98 PMD2/CN60/RE2 (io), 99 PMD3/CN61/RE3 (io), 100 PMD4/CN62/RE4 (io)

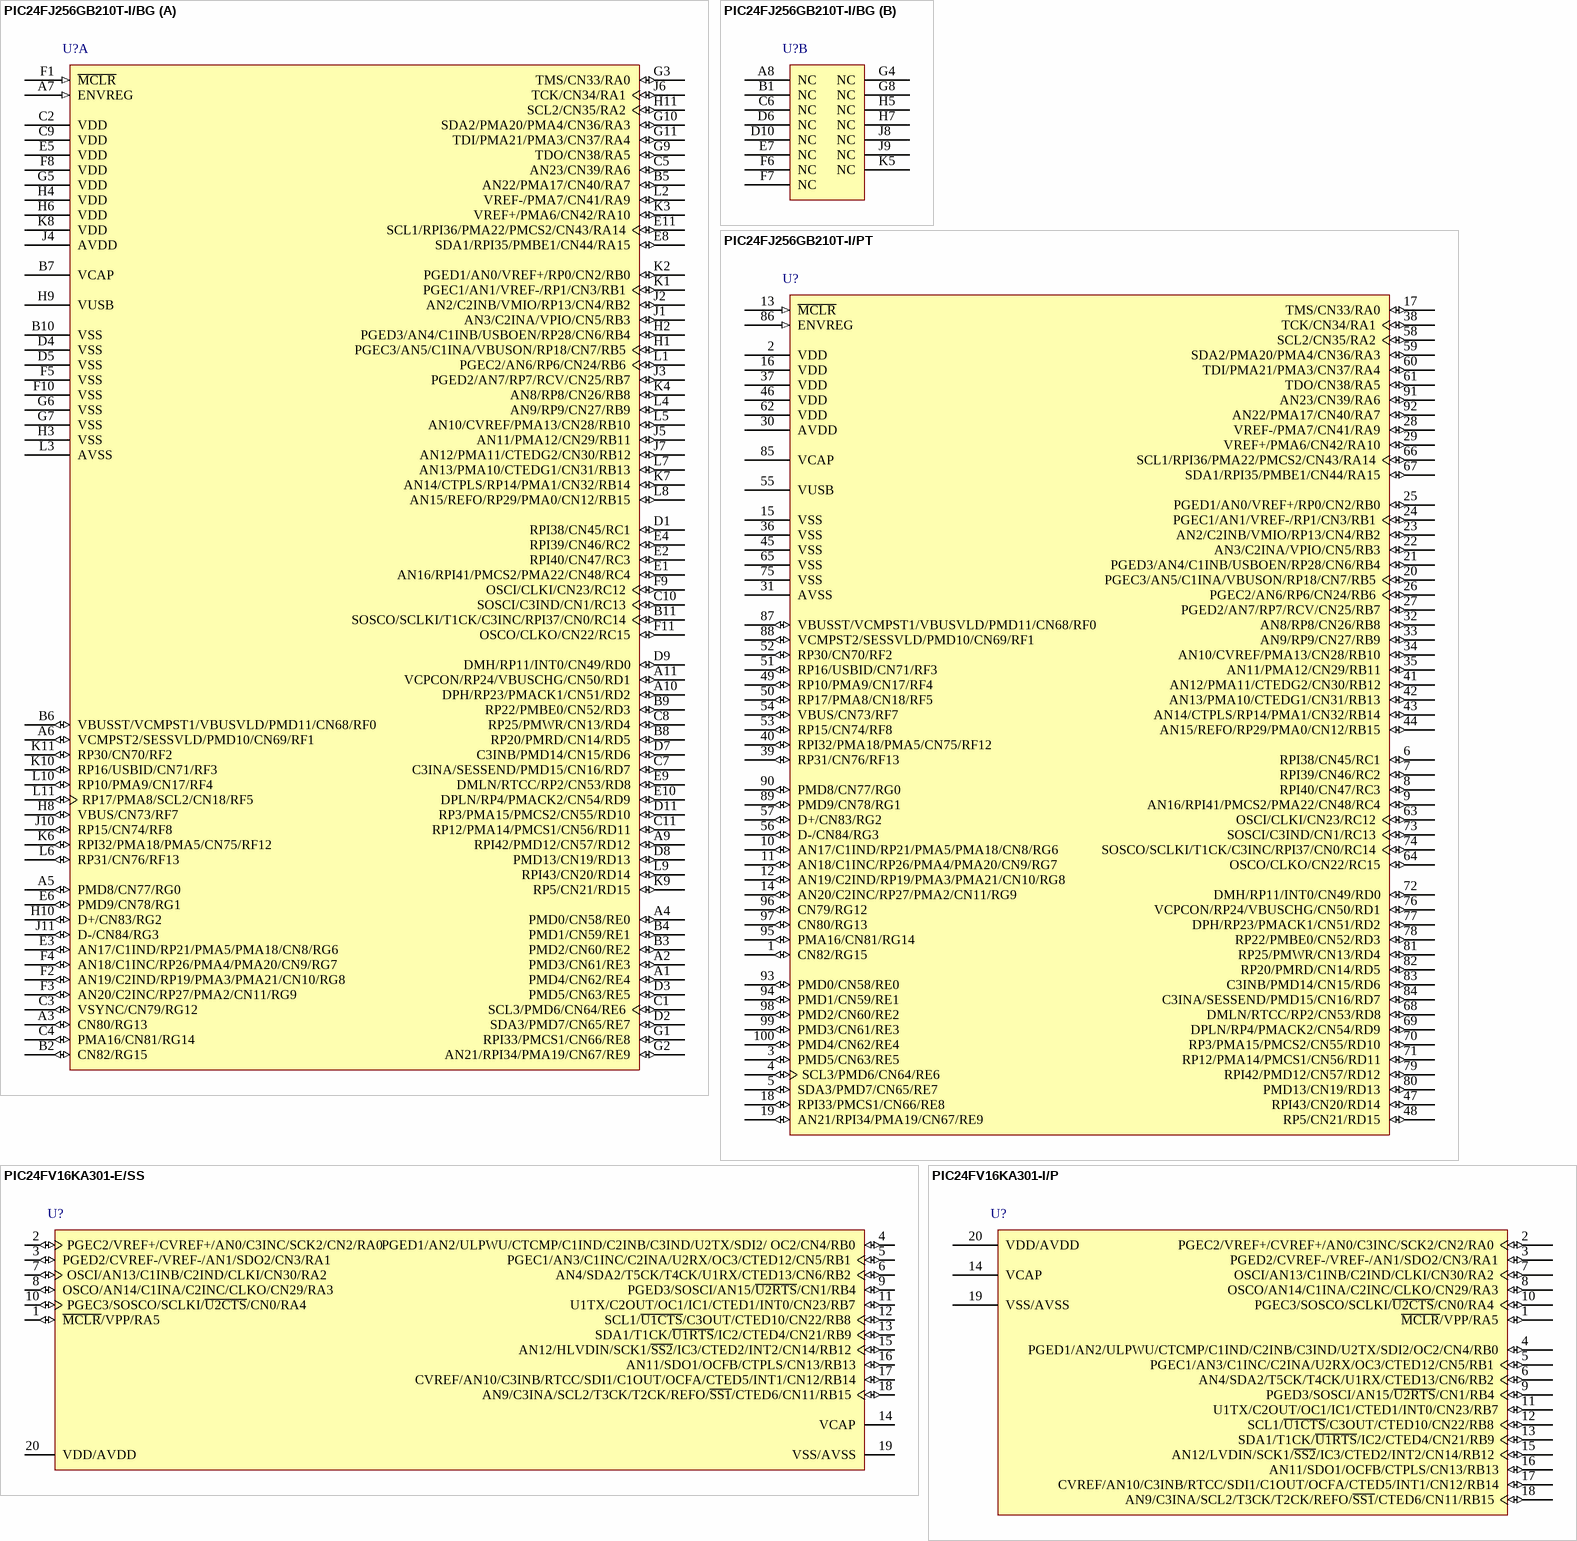
[diagram p117: symbols PIC24FJ256GB210T-I/BG to PIC24FV16KA301-I/P]

## PIC24FJ256GB210T-I/BG
designator U?
16-Bit Flash Microcontroller with USB On-The-Go, 256KB Flash, 96KB SRAM, 121-Pin XBGA, Industrial Temperature, Tape and Reel; Manufacturer: Microchip; PartNumber: PIC24FJ256GB210T-I/BG; DatasheetVersion: revA, May-2010; PackageVersion: revBB, Aug-2009; PackageReference: XBGA-BG121; PackageDescription: 121-Lead Plastic Thin Profile Ball Grid Array (BG) - 10x10x1.10 mm Body [XBGA]; Supplier 1: Digi-Key; Supplier Part Number 1: PIC24FJ256GB210T-I/BG-ND; Supplier 2: Mouser; Supplier Part Number 2: 579-PIC24FJ25610TIBG; Mounting Technology: Surface Mount; ComponentLink1Description: Manufacturer URL; ComponentLink1URL: http://www.microchip.com/; ComponentLink2Description: Datasheet; ComponentLink2URL: http://ww1.microchip.com/downloads/en/DeviceDoc/39975a.pdf; ComponentLink3Description: Package Specification; ComponentLink3URL: http://www.microchip.com/stellent/groups/techpub_sg/documents/packagingspec/en012702.pdf
footprint XBGA-BG121 (BGA, 121-Leads, Body 10x10mm, Pitch 0.8mm)
part A pins: A1 PMD4/CN62/RE4 (io), A2 PMD3/CN61/RE3 (io), A3 CN80/RG13 (io), A4 PMD0/CN58/RE0 (io), A5 PMD8/CN77/RG0 (io), A6 VCMPST2/SESSVLD/PMD10/CN69/RF1 (io), A7 ENVREG (in), A9 RPI42/PMD12/CN57/RD12 (io), A10 DPH/RP23/PMACK1/CN51/RD2 (io), A11 VCPCON/RP24/VBUSCHG/CN50/RD1 (io), B2 CN82/RG15 (io), B3 PMD2/CN60/RE2 (io), B4 PMD1/CN59/RE1 (io), B5 AN22/PMA17/CN40/RA7 (io), B6 VBUSST/VCMPST1/VBUSVLD/PMD11/CN68/RF0 (io), B7 VCAP (power), B8 RP20/PMRD/CN14/RD5 (io), B9 RP22/PMBE0/CN52/RD3 (io), B10 VSS (power), B11 SOSCO/SCLKI/T1CK/C3INC/RPI37/CN0/RC14 (io), C1 SCL3/PMD6/CN64/RE6 (io), C2 VDD (power), C3 VSYNC/CN79/RG12 (io), C4 PMA16/CN81/RG14 (io), C5 AN23/CN39/RA6 (io), C7 C3INA/SESSEND/PMD15/CN16/RD7 (io), C8 RP25/PMWR/CN13/RD4 (io), C9 VDD (power), C10 SOSCI/C3IND/CN1/RC13 (io), C11 RP12/PMA14/PMCS1/CN56/RD11 (io), D1 RPI38/CN45/RC1 (io), D2 SDA3/PMD7/CN65/RE7 (io), D3 PMD5/CN63/RE5 (io), D4 VSS (power), D5 VSS (power), D7 C3INB/PMD14/CN15/RD6 (io), D8 PMD13/CN19/RD13 (io), D9 DMH/RP11/INT0/CN49/RD0 (io), D11 RP3/PMA15/PMCS2/CN55/RD10 (io), E1 AN16/RPI41/PMCS2/PMA22/CN48/RC4 (io), E2 RPI40/CN47/RC3 (io), E3 AN17/C1IND/RP21/PMA5/PMA18/CN8/RG6 (io), E4 RPI39/CN46/RC2 (io), E5 VDD (power), E6 PMD9/CN78/RG1 (io), E8 SDA1/RPI35/PMBE1/CN44/RA15 (io), E9 DMLN/RTCC/RP2/CN53/RD8 (io), E10 DPLN/RP4/PMACK2/CN54/RD9 (io), E11 SCL1/RPI36/PMA22/PMCS2/CN43/RA14 (io), F1 ~{MCLR} (in), F2 AN19/C2IND/RP19/PMA3/PMA21/CN10/RG8 (io), F3 AN20/C2INC/RP27/PMA2/CN11/RG9 (io), F4 AN18/C1INC/RP26/PMA4/PMA20/CN9/RG7 (io), F5 VSS (power), F8 VDD (power), F9 OSCI/CLKI/CN23/RC12 (io), F10 VSS (power), F11 OSCO/CLKO/CN22/RC15 (io), G1 RPI33/PMCS1/CN66/RE8 (io), G2 AN21/RPI34/PMA19/CN67/RE9 (io), G3 TMS/CN33/RA0 (io), G5 VDD (power), G6 VSS (power), G7 VSS (power), G9 TDO/CN38/RA5 (io), G10 SDA2/PMA20/PMA4/CN36/RA3 (io), G11 TDI/PMA21/PMA3/CN37/RA4 (io), H1 PGEC3/AN5/C1INA/VBUSON/RP18/CN7/RB5 (io), H2 PGED3/AN4/C1INB/USBOEN/RP28/CN6/RB4 (io), H3 VSS (power), H4 VDD (power), H6 VDD (power), H8 VBUS/CN73/RF7 (io), H9 VUSB (power), H10 D+/CN83/RG2 (io), H11 SCL2/CN35/RA2 (io), J1 AN3/C2INA/VPIO/CN5/RB3 (io), J2 AN2/C2INB/VMIO/RP13/CN4/RB2 (io), J3 PGED2/AN7/RP7/RCV/CN25/RB7 (io), J4 AVDD (power), J5 AN11/PMA12/CN29/RB11 (io), J6 TCK/CN34/RA1 (io), J7 AN12/PMA11/CTEDG2/CN30/RB12 (io), J10 RP15/CN74/RF8 (io), J11 D-/CN84/RG3 (io), K1 PGEC1/AN1/VREF-/RP1/CN3/RB1 (io), K2 PGED1/AN0/VREF+/RP0/CN2/RB0 (io), K3 VREF+/PMA6/CN42/RA10 (io), K4 AN8/RP8/CN26/RB8 (io), K6 RPI32/PMA18/PMA5/CN75/RF12 (io), K7 AN14/CTPLS/RP14/PMA1/CN32/RB14 (io), K8 VDD (power), K9 RP5/CN21/RD15 (io), K10 RP16/USBID/CN71/RF3 (io), K11 RP30/CN70/RF2 (io), L1 PGEC2/AN6/RP6/CN24/RB6 (io), L2 VREF-/PMA7/CN41/RA9 (io), L3 AVSS (power), L4 AN9/RP9/CN27/RB9 (io), L5 AN10/CVREF/PMA13/CN28/RB10 (io), L6 RP31/CN76/RF13 (io), L7 AN13/PMA10/CTEDG1/CN31/RB13 (io), L8 AN15/REFO/RP29/PMA0/CN12/RB15 (io), L9 RPI43/CN20/RD14 (io), L10 RP10/PMA9/CN17/RF4 (io), L11 RP17/PMA8/SCL2/CN18/RF5 (io)
part B pins: A8 NC, B1 NC, C6 NC, D6 NC, D10 NC, E7 NC, F6 NC, F7 NC, G4 NC, G8 NC, H5 NC, H7 NC, J8 NC, J9 NC, K5 NC

## PIC24FJ256GB210T-I/PT
designator U?
16-Bit Flash Microcontroller with USB On-The-Go, 256KB Flash, 96KB SRAM, 100-Pin TQFP, Industrial Temperature, Tape and Reel; Manufacturer: Microchip; PartNumber: PIC24FJ256GB210T-I/PT; DatasheetVersion: revA, May-2010; PackageVersion: revBB, Aug-2009; PackageReference: TQFP-PT100; PackageDescription: 100-Lead Plastic Thin Quad Flatpack (PT) - 12x12x1mm Body, 2.00mm [TQFP]; Supplier 1: Digi-Key; Supplier Part Number 1: PIC24FJ256GB210T-I/PT-ND; Supplier 2: Mouser; Supplier Part Number 2: 579-PIC24FJ256GB10TT; Mounting Technology: Surface Mount; ComponentLink1Description: Manufacturer URL; ComponentLink1URL: http://www.microchip.com/; ComponentLink2Description: Datasheet; ComponentLink2URL: http://ww1.microchip.com/downloads/en/DeviceDoc/39975a.pdf; ComponentLink3Description: Package Specification; ComponentLink3URL: http://www.microchip.com/stellent/groups/techpub_sg/documents/packagingspec/en012702.pdf
footprint TQFP-PT100_N (Thin QFP, 100-Leads, Body 12x12mm, Pitch 0.4mm, IPC Medium Density)
footprint TQFP-PT100_L (Thin QFP, 100-Leads, Body 12x12mm, Pitch 0.4mm, IPC High Density)
footprint TQFP-PT100_M (Thin QFP, 100-Leads, Body 12x12mm, Pitch 0.4mm, IPC Low Density)
pins: 1 CN82/RG15 (io), 2 VDD (power), 3 PMD5/CN63/RE5 (io), 4 SCL3/PMD6/CN64/RE6 (io), 5 SDA3/PMD7/CN65/RE7 (io), 6 RPI38/CN45/RC1 (io), 7 RPI39/CN46/RC2 (io), 8 RPI40/CN47/RC3 (io), 9 AN16/RPI41/PMCS2/PMA22/CN48/RC4 (io), 10 AN17/C1IND/RP21/PMA5/PMA18/CN8/RG6 (io), 11 AN18/C1INC/RP26/PMA4/PMA20/CN9/RG7 (io), 12 AN19/C2IND/RP19/PMA3/PMA21/CN10/RG8 (io), 13 ~{MCLR} (in), 14 AN20/C2INC/RP27/PMA2/CN11/RG9 (io), 15 VSS (power), 16 VDD (power), 17 TMS/CN33/RA0 (io), 18 RPI33/PMCS1/CN66/RE8 (io), 19 AN21/RPI34/PMA19/CN67/RE9 (io), 20 PGEC3/AN5/C1INA/VBUSON/RP18/CN7/RB5 (io), 21 PGED3/AN4/C1INB/USBOEN/RP28/CN6/RB4 (io), 22 AN3/C2INA/VPIO/CN5/RB3 (io), 23 AN2/C2INB/VMIO/RP13/CN4/RB2 (io), 24 PGEC1/AN1/VREF-/RP1/CN3/RB1 (io), 25 PGED1/AN0/VREF+/RP0/CN2/RB0 (io), 26 PGEC2/AN6/RP6/CN24/RB6 (io), 27 PGED2/AN7/RP7/RCV/CN25/RB7 (io), 28 VREF-/PMA7/CN41/RA9 (io), 29 VREF+/PMA6/CN42/RA10 (io), 30 AVDD (power), 31 AVSS (power), 32 AN8/RP8/CN26/RB8 (io), 33 AN9/RP9/CN27/RB9 (io), 34 AN10/CVREF/PMA13/CN28/RB10 (io), 35 AN11/PMA12/CN29/RB11 (io), 36 VSS (power), 37 VDD (power), 38 TCK/CN34/RA1 (io), 39 RP31/CN76/RF13 (io), 40 RPI32/PMA18/PMA5/CN75/RF12 (io), 41 AN12/PMA11/CTEDG2/CN30/RB12 (io), 42 AN13/PMA10/CTEDG1/CN31/RB13 (io), 43 AN14/CTPLS/RP14/PMA1/CN32/RB14 (io), 44 AN15/REFO/RP29/PMA0/CN12/RB15 (io), 45 VSS (power), 46 VDD (power), 47 RPI43/CN20/RD14 (io), 48 RP5/CN21/RD15 (io), 49 RP10/PMA9/CN17/RF4 (io), 50 RP17/PMA8/CN18/RF5 (io), 51 RP16/USBID/CN71/RF3 (io), 52 RP30/CN70/RF2 (io), 53 RP15/CN74/RF8 (io), 54 VBUS/CN73/RF7 (io), 55 VUSB (power), 56 D-/CN84/RG3 (io), 57 D+/CN83/RG2 (io), 58 SCL2/CN35/RA2 (io), 59 SDA2/PMA20/PMA4/CN36/RA3 (io), 60 TDI/PMA21/PMA3/CN37/RA4 (io), 61 TDO/CN38/RA5 (io), 62 VDD (power), 63 OSCI/CLKI/CN23/RC12 (io), 64 OSCO/CLKO/CN22/RC15 (io), 65 VSS (power), 66 SCL1/RPI36/PMA22/PMCS2/CN43/RA14 (io), 67 SDA1/RPI35/PMBE1/CN44/RA15 (io), 68 DMLN/RTCC/RP2/CN53/RD8 (io), 69 DPLN/RP4/PMACK2/CN54/RD9 (io), 70 RP3/PMA15/PMCS2/CN55/RD10 (io), 71 RP12/PMA14/PMCS1/CN56/RD11 (io), 72 DMH/RP11/INT0/CN49/RD0 (io), 73 SOSCI/C3IND/CN1/RC13 (io), 74 SOSCO/SCLKI/T1CK/C3INC/RPI37/CN0/RC14 (io), 75 VSS (power), 76 VCPCON/RP24/VBUSCHG/CN50/RD1 (io), 77 DPH/RP23/PMACK1/CN51/RD2 (io), 78 RP22/PMBE0/CN52/RD3 (io), 79 RPI42/PMD12/CN57/RD12 (io), 80 PMD13/CN19/RD13 (io), 81 RP25/PMWR/CN13/RD4 (io), 82 RP20/PMRD/CN14/RD5 (io), 83 C3INB/PMD14/CN15/RD6 (io), 84 C3INA/SESSEND/PMD15/CN16/RD7 (io), 85 VCAP (power), 86 ENVREG (in), 87 VBUSST/VCMPST1/VBUSVLD/PMD11/CN68/RF0 (io), 88 VCMPST2/SESSVLD/PMD10/CN69/RF1 (io), 89 PMD9/CN78/RG1 (io), 90 PMD8/CN77/RG0 (io), 91 AN23/CN39/RA6 (io), 92 AN22/PMA17/CN40/RA7 (io), 93 PMD0/CN58/RE0 (io), 94 PMD1/CN59/RE1 (io), 95 PMA16/CN81/RG14 (io), 96 CN79/RG12 (io), 97 CN80/RG13 (io), 98 PMD2/CN60/RE2 (io), 99 PMD3/CN61/RE3 (io), 100 PMD4/CN62/RE4 (io)

## PIC24FV16KA301-E/SS
designator U?
General Purpose, 16-Bit Flash Microcontroller with XLP Technology, 16 MIPS, 18 I/O, -40 to 125 degC, 20-pin SSOP (SS20), Tube; Manufacturer: Microchip; PartNumber: PIC24FV16KA301-E/SS; DatasheetVersion: Rev. C; PackageVersion: C04-072B; PackageReference: SSOP-SS20; PackageDescription: 20-Lead Plastic Shrink Small Outline, 5.3 x 7.2 mm Body, 0.65 mm Pitch; Supplier 1: Digi-Key; Supplier Part Number 1: PIC24FV16KA301-E/SS-ND; Supplier 2: Newark; Supplier Part Number 2: 13T4779; Supplier 3: Mouser; Supplier Part Number 3: 579-24FV16KA301ESS; Mounting Technology: Surface Mount; ComponentLink1Description: Manufacturer URL; ComponentLink1URL: http://www.microchip.com; ComponentLink2Description: Datasheet; ComponentLink2URL: http://ww1.microchip.com/downloads/en/DeviceDoc/39995c.pdf; ComponentLink3Description: Package Specification; ComponentLink3URL: http://www.microchip.com/stellent/groups/techpub_sg/documents/packagingspec/en012702.pdf; ComponentLink4Description: Product URL; ComponentLink4URL: http://www.microchip.com/PIC24F16KA301
footprint MCHP-SSOP-SS20_N (SOP, 20-Leads, Body 7.2x5.3mm, Pitch 0.65mm, IPC Medium Density)
footprint MCHP-SSOP-SS20_L (SOP, 20-Leads, Body 7.2x5.3mm, Pitch 0.65mm, IPC High Density)
footprint MCHP-SSOP-SS20_M (SOP, 20-Leads, Body 7.2x5.3mm, Pitch 0.65mm, IPC Low Density)
pins: 1 ~{MCLR}/VPP/RA5 (io), 2 PGEC2/VREF+/CVREF+/AN0/C3INC/SCK2/CN2/RA0 (io), 3 PGED2/CVREF-/VREF-/AN1/SDO2/CN3/RA1 (io), 4 PGED1/AN2/ULPWU/CTCMP/C1IND/C2INB/C3IND/U2TX/SDI2/ OC2/CN4/RB0 (io), 5 PGEC1/AN3/C1INC/C2INA/U2RX/OC3/CTED12/CN5/RB1 (io), 6 AN4/SDA2/T5CK/T4CK/U1RX/CTED13/CN6/RB2 (io), 7 OSCI/AN13/C1INB/C2IND/CLKI/CN30/RA2 (io), 8 OSCO/AN14/C1INA/C2INC/CLKO/CN29/RA3 (io), 9 PGED3/SOSCI/AN15/~{U2RTS}/CN1/RB4 (io), 10 PGEC3/SOSCO/SCLKI/~{U2CTS}/CN0/RA4 (io), 11 U1TX/C2OUT/OC1/IC1/CTED1/INT0/CN23/RB7 (io), 12 SCL1/~{U1CTS}/C3OUT/CTED10/CN22/RB8 (io), 13 SDA1/T1CK/~{U1RTS}/IC2/CTED4/CN21/RB9 (io), 14 VCAP "Core Power", 15 AN12/HLVDIN/SCK1/~{SS2}/IC3/CTED2/INT2/CN14/RB12 (io), 16 AN11/SDO1/OCFB/CTPLS/CN13/RB13 (io), 17 CVREF/AN10/C3INB/RTCC/SDI1/C1OUT/OCFA/CTED5/INT1/CN12/RB14 (io), 18 AN9/C3INA/SCL2/T3CK/T2CK/REFO/~{SS1}/CTED6/CN11/RB15 (io), 19 VSS/AVSS (power), 20 VDD/AVDD (power)

## PIC24FV16KA301-I/P
designator U?
16-Bit Flash Microcontroller with XLP Technology, 16KB Flash, 2KB SRAM, 20-Pin PDIP, Industrial Temperature; Manufacturer: Microchip; PartNumber: PIC24FV16KA301-I/P; DatasheetVersion: revB, Apr-2011; PackageVersion: revBB, Aug-2009; PackageReference: PDIP300-P20; PackageDescription: 20-Lead Plastic Dual In-Line (P) - 300 mil Body [PDIP]; Supplier 1: Digi-Key; Supplier Part Number 1: PIC24FV16KA301-I/P-ND; Supplier 2: Farnell; Supplier Part Number 2: 1898805; Supplier 3: Newark; Supplier Part Number 3: 13T4780; Supplier 4: Mouser; Supplier Part Number 4: 579-PIC24FV16KA301IP; Mounting Technology: Through Hole; ComponentLink1Description: Manufacturer URL; ComponentLink1URL: http://www.microchip.com/; ComponentLink2Description: Datasheet; ComponentLink2URL: http://ww1.microchip.com/downloads/en/DeviceDoc/39995_b.pdf; ComponentLink3Description: Package Specification; ComponentLink3URL: http://www.microchip.com/stellent/groups/techpub_sg/documents/packagingspec/en012702.pdf
footprint PDIP300-P20 (DIP, 20-Leads, Row Spacing 7.62mm, Pitch 2.54mm, Body 25.9x6.6mm)
pins: 1 ~{MCLR}/VPP/RA5 (io), 2 PGEC2/VREF+/CVREF+/AN0/C3INC/SCK2/CN2/RA0 (io), 3 PGED2/CVREF-/VREF-/AN1/SDO2/CN3/RA1 (io), 4 PGED1/AN2/ULPWU/CTCMP/C1IND/C2INB/C3IND/U2TX/SDI2/OC2/CN4/RB0 (io), 5 PGEC1/AN3/C1INC/C2INA/U2RX/OC3/CTED12/CN5/RB1 (io), 6 AN4/SDA2/T5CK/T4CK/U1RX/CTED13/CN6/RB2 (io), 7 OSCI/AN13/C1INB/C2IND/CLKI/CN30/RA2 (io), 8 OSCO/AN14/C1INA/C2INC/CLKO/CN29/RA3 (io), 9 PGED3/SOSCI/AN15/~{U2RTS}/CN1/RB4 (io), 10 PGEC3/SOSCO/SCLKI/~{U2CTS}/CN0/RA4 (io), 11 U1TX/C2OUT/OC1/IC1/CTED1/INT0/CN23/RB7 (io), 12 SCL1/~{U1CTS}/C3OUT/CTED10/CN22/RB8 (io), 13 SDA1/T1CK/~{U1RTS}/IC2/CTED4/CN21/RB9 (io), 14 VCAP (power), 15 AN12/LVDIN/SCK1/~{SS2}/IC3/CTED2/INT2/CN14/RB12 (io), 16 AN11/SDO1/OCFB/CTPLS/CN13/RB13 (io), 17 CVREF/AN10/C3INB/RTCC/SDI1/C1OUT/OCFA/CTED5/INT1/CN12/RB14 (io), 18 AN9/C3INA/SCL2/T3CK/T2CK/REFO/~{SS1}/CTED6/CN11/RB15 (io), 19 VSS/AVSS (power), 20 VDD/AVDD (power)

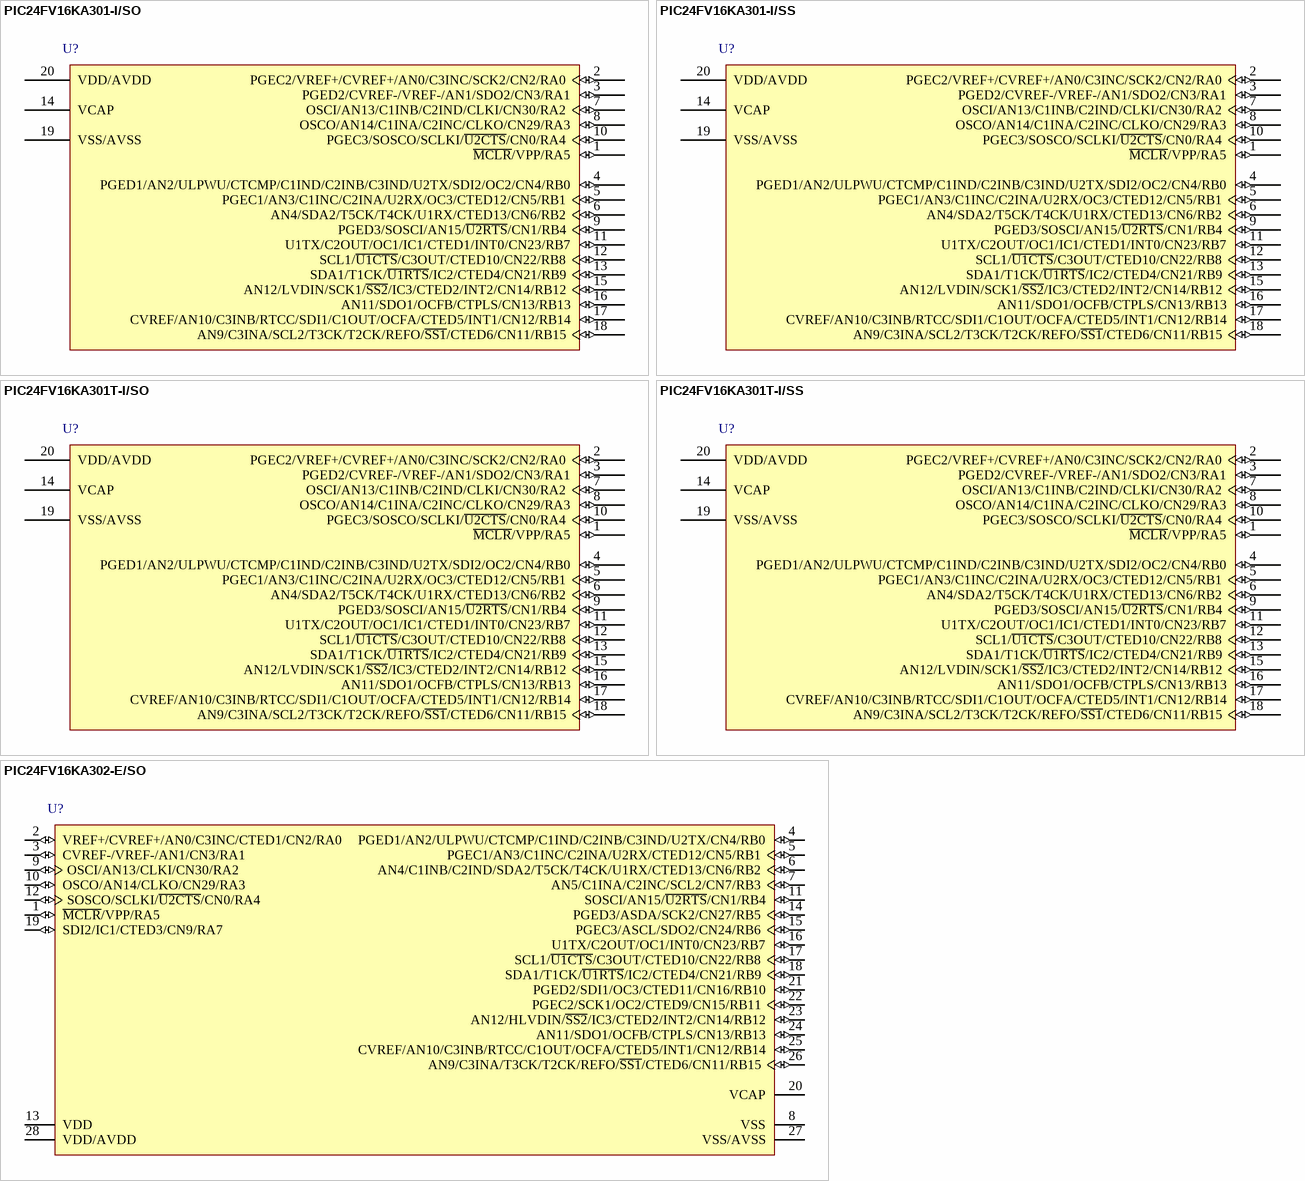
[diagram p118: symbols PIC24FV16KA301-I/SO to PIC24FV16KA302-E/SO]

## PIC24FV16KA301-I/SO
designator U?
16-Bit Flash Microcontroller with XLP Technology, 16KB Flash, 2KB SRAM, 20-Pin SOIC, Industrial Temperature; Manufacturer: Microchip; PartNumber: PIC24FV16KA301-I/SO; DatasheetVersion: revB, Apr-2011; PackageVersion: revBB, Aug-2009; PackageReference: SOIC-SO20; PackageDescription: 20-Lead Plastic Small Outline (SO) - Wide 7.50mm Body [SOIC]; Supplier 1: Digi-Key; Supplier Part Number 1: PIC24FV16KA301-I/SO-ND; Supplier 2: Farnell; Supplier Part Number 2: 2045303; Supplier 3: Newark; Supplier Part Number 3: 13T4781; Supplier 4: Mouser; Supplier Part Number 4: 579-24FV16KA301ISO; Mounting Technology: Surface Mount; Code_JEDEC: MS-013-AC; Code_IPC: SOIC127P1030-20; ComponentLink1Description: Manufacturer URL; ComponentLink1URL: http://www.microchip.com/; ComponentLink2Description: Datasheet; ComponentLink2URL: http://ww1.microchip.com/downloads/en/DeviceDoc/39995_b.pdf; ComponentLink3Description: Package Specification; ComponentLink3URL: http://www.microchip.com/stellent/groups/techpub_sg/documents/packagingspec/en012702.pdf
footprint SOIC-SO20_N (SOIC, 20-Leads, Body 12.8x7.5mm, Pitch 1.27mm, IPC Medium Density)
footprint SOIC-SO20_L (SOIC, 20-Leads, Body 12.8x7.5mm, Pitch 1.27mm, IPC High Density)
footprint SOIC-SO20_M (SOIC, 20-Leads, Body 12.8x7.5mm, Pitch 1.27mm, IPC Low Density)
pins: 1 ~{MCLR}/VPP/RA5 (io), 2 PGEC2/VREF+/CVREF+/AN0/C3INC/SCK2/CN2/RA0 (io), 3 PGED2/CVREF-/VREF-/AN1/SDO2/CN3/RA1 (io), 4 PGED1/AN2/ULPWU/CTCMP/C1IND/C2INB/C3IND/U2TX/SDI2/OC2/CN4/RB0 (io), 5 PGEC1/AN3/C1INC/C2INA/U2RX/OC3/CTED12/CN5/RB1 (io), 6 AN4/SDA2/T5CK/T4CK/U1RX/CTED13/CN6/RB2 (io), 7 OSCI/AN13/C1INB/C2IND/CLKI/CN30/RA2 (io), 8 OSCO/AN14/C1INA/C2INC/CLKO/CN29/RA3 (io), 9 PGED3/SOSCI/AN15/~{U2RTS}/CN1/RB4 (io), 10 PGEC3/SOSCO/SCLKI/~{U2CTS}/CN0/RA4 (io), 11 U1TX/C2OUT/OC1/IC1/CTED1/INT0/CN23/RB7 (io), 12 SCL1/~{U1CTS}/C3OUT/CTED10/CN22/RB8 (io), 13 SDA1/T1CK/~{U1RTS}/IC2/CTED4/CN21/RB9 (io), 14 VCAP (power), 15 AN12/LVDIN/SCK1/~{SS2}/IC3/CTED2/INT2/CN14/RB12 (io), 16 AN11/SDO1/OCFB/CTPLS/CN13/RB13 (io), 17 CVREF/AN10/C3INB/RTCC/SDI1/C1OUT/OCFA/CTED5/INT1/CN12/RB14 (io), 18 AN9/C3INA/SCL2/T3CK/T2CK/REFO/~{SS1}/CTED6/CN11/RB15 (io), 19 VSS/AVSS (power), 20 VDD/AVDD (power)

## PIC24FV16KA301-I/SS
designator U?
16-Bit Flash Microcontroller with XLP Technology, 16KB Flash, 2KB SRAM, 20-Pin SSOP, Industrial Temperature; Manufacturer: Microchip; PartNumber: PIC24FV16KA301-I/SS; DatasheetVersion: revB, Apr-2011; PackageVersion: revBB, Aug-2009; PackageReference: SSOP-SS20; PackageDescription: 20-Lead Plastic Shrink Small Outline (SS) - 5.3mm Body [SSOP]; Supplier 1: Digi-Key; Supplier Part Number 1: PIC24FV16KA301-I/SS-ND; Supplier 2: Newark; Supplier Part Number 2: 13T4782; Supplier 3: Mouser; Supplier Part Number 3: 579-24FV16KA301ISS; Mounting Technology: Surface Mount; Code_JEDEC: MO-150; ComponentLink1Description: Manufacturer URL; ComponentLink1URL: http://www.microchip.com/; ComponentLink2Description: Datasheet; ComponentLink2URL: http://ww1.microchip.com/downloads/en/DeviceDoc/39995_b.pdf; ComponentLink3Description: Package Specification; ComponentLink3URL: http://www.microchip.com/stellent/groups/techpub_sg/documents/packagingspec/en012702.pdf
footprint SSOP-SS20_N (SOP, 20-Leads, Body 7.2x5.2mm, Pitch 0.65mm, IPC Medium Density)
footprint SSOP-SS20_L (SOP, 20-Leads, Body 7.2x5.2mm, Pitch 0.65mm, IPC High Density)
footprint SSOP-SS20_M (SOP, 20-Leads, Body 7.2x5.2mm, Pitch 0.65mm, IPC Low Density)
pins: 1 ~{MCLR}/VPP/RA5 (io), 2 PGEC2/VREF+/CVREF+/AN0/C3INC/SCK2/CN2/RA0 (io), 3 PGED2/CVREF-/VREF-/AN1/SDO2/CN3/RA1 (io), 4 PGED1/AN2/ULPWU/CTCMP/C1IND/C2INB/C3IND/U2TX/SDI2/OC2/CN4/RB0 (io), 5 PGEC1/AN3/C1INC/C2INA/U2RX/OC3/CTED12/CN5/RB1 (io), 6 AN4/SDA2/T5CK/T4CK/U1RX/CTED13/CN6/RB2 (io), 7 OSCI/AN13/C1INB/C2IND/CLKI/CN30/RA2 (io), 8 OSCO/AN14/C1INA/C2INC/CLKO/CN29/RA3 (io), 9 PGED3/SOSCI/AN15/~{U2RTS}/CN1/RB4 (io), 10 PGEC3/SOSCO/SCLKI/~{U2CTS}/CN0/RA4 (io), 11 U1TX/C2OUT/OC1/IC1/CTED1/INT0/CN23/RB7 (io), 12 SCL1/~{U1CTS}/C3OUT/CTED10/CN22/RB8 (io), 13 SDA1/T1CK/~{U1RTS}/IC2/CTED4/CN21/RB9 (io), 14 VCAP (power), 15 AN12/LVDIN/SCK1/~{SS2}/IC3/CTED2/INT2/CN14/RB12 (io), 16 AN11/SDO1/OCFB/CTPLS/CN13/RB13 (io), 17 CVREF/AN10/C3INB/RTCC/SDI1/C1OUT/OCFA/CTED5/INT1/CN12/RB14 (io), 18 AN9/C3INA/SCL2/T3CK/T2CK/REFO/~{SS1}/CTED6/CN11/RB15 (io), 19 VSS/AVSS (power), 20 VDD/AVDD (power)

## PIC24FV16KA301T-I/SO
designator U?
16-Bit Flash Microcontroller with XLP Technology, 16KB Flash, 2KB SRAM, 20-Pin SOIC, Industrial Temperature, Tape and Reel; Manufacturer: Microchip; PartNumber: PIC24FV16KA301T-I/SO; DatasheetVersion: revB, Apr-2011; PackageVersion: revBB, Aug-2009; PackageReference: SOIC-SO20; PackageDescription: 20-Lead Plastic Small Outline (SO) - Wide 7.50mm Body [SOIC]; Supplier 1: Digi-Key; Supplier Part Number 1: PIC24FV16KA301T-I/SO-ND; Supplier 2: Mouser; Supplier Part Number 2: 579-24FV16KA301TISO; Mounting Technology: Surface Mount; Code_JEDEC: MS-013-AC; Code_IPC: SOIC127P1030-20; ComponentLink1Description: Manufacturer URL; ComponentLink1URL: http://www.microchip.com/; ComponentLink2Description: Datasheet; ComponentLink2URL: http://ww1.microchip.com/downloads/en/DeviceDoc/39995_b.pdf; ComponentLink3Description: Package Specification; ComponentLink3URL: http://www.microchip.com/stellent/groups/techpub_sg/documents/packagingspec/en012702.pdf
footprint SOIC-SO20_N (SOIC, 20-Leads, Body 12.8x7.5mm, Pitch 1.27mm, IPC Medium Density)
footprint SOIC-SO20_L (SOIC, 20-Leads, Body 12.8x7.5mm, Pitch 1.27mm, IPC High Density)
footprint SOIC-SO20_M (SOIC, 20-Leads, Body 12.8x7.5mm, Pitch 1.27mm, IPC Low Density)
pins: 1 ~{MCLR}/VPP/RA5 (io), 2 PGEC2/VREF+/CVREF+/AN0/C3INC/SCK2/CN2/RA0 (io), 3 PGED2/CVREF-/VREF-/AN1/SDO2/CN3/RA1 (io), 4 PGED1/AN2/ULPWU/CTCMP/C1IND/C2INB/C3IND/U2TX/SDI2/OC2/CN4/RB0 (io), 5 PGEC1/AN3/C1INC/C2INA/U2RX/OC3/CTED12/CN5/RB1 (io), 6 AN4/SDA2/T5CK/T4CK/U1RX/CTED13/CN6/RB2 (io), 7 OSCI/AN13/C1INB/C2IND/CLKI/CN30/RA2 (io), 8 OSCO/AN14/C1INA/C2INC/CLKO/CN29/RA3 (io), 9 PGED3/SOSCI/AN15/~{U2RTS}/CN1/RB4 (io), 10 PGEC3/SOSCO/SCLKI/~{U2CTS}/CN0/RA4 (io), 11 U1TX/C2OUT/OC1/IC1/CTED1/INT0/CN23/RB7 (io), 12 SCL1/~{U1CTS}/C3OUT/CTED10/CN22/RB8 (io), 13 SDA1/T1CK/~{U1RTS}/IC2/CTED4/CN21/RB9 (io), 14 VCAP (power), 15 AN12/LVDIN/SCK1/~{SS2}/IC3/CTED2/INT2/CN14/RB12 (io), 16 AN11/SDO1/OCFB/CTPLS/CN13/RB13 (io), 17 CVREF/AN10/C3INB/RTCC/SDI1/C1OUT/OCFA/CTED5/INT1/CN12/RB14 (io), 18 AN9/C3INA/SCL2/T3CK/T2CK/REFO/~{SS1}/CTED6/CN11/RB15 (io), 19 VSS/AVSS (power), 20 VDD/AVDD (power)

## PIC24FV16KA301T-I/SS
designator U?
16-Bit Flash Microcontroller with XLP Technology, 16KB Flash, 2KB SRAM, 20-Pin SSOP, Industrial Temperature, Tape and Reel; Manufacturer: Microchip; PartNumber: PIC24FV16KA301T-I/SS; DatasheetVersion: revB, Apr-2011; PackageVersion: revBB, Aug-2009; PackageReference: SSOP-SS20; PackageDescription: 20-Lead Plastic Shrink Small Outline (SS) - 5.3mm Body [SSOP]; Supplier 1: Digi-Key; Supplier Part Number 1: PIC24FV16KA301T-I/SS-ND; Supplier 2: Mouser; Supplier Part Number 2: 579-24FV16KA301TISS; Mounting Technology: Surface Mount; Code_JEDEC: MO-150; ComponentLink1Description: Manufacturer URL; ComponentLink1URL: http://www.microchip.com/; ComponentLink2Description: Datasheet; ComponentLink2URL: http://ww1.microchip.com/downloads/en/DeviceDoc/39995_b.pdf; ComponentLink3Description: Package Specification; ComponentLink3URL: http://www.microchip.com/stellent/groups/techpub_sg/documents/packagingspec/en012702.pdf
footprint SSOP-SS20_N (SOP, 20-Leads, Body 7.2x5.2mm, Pitch 0.65mm, IPC Medium Density)
footprint SSOP-SS20_L (SOP, 20-Leads, Body 7.2x5.2mm, Pitch 0.65mm, IPC High Density)
footprint SSOP-SS20_M (SOP, 20-Leads, Body 7.2x5.2mm, Pitch 0.65mm, IPC Low Density)
pins: 1 ~{MCLR}/VPP/RA5 (io), 2 PGEC2/VREF+/CVREF+/AN0/C3INC/SCK2/CN2/RA0 (io), 3 PGED2/CVREF-/VREF-/AN1/SDO2/CN3/RA1 (io), 4 PGED1/AN2/ULPWU/CTCMP/C1IND/C2INB/C3IND/U2TX/SDI2/OC2/CN4/RB0 (io), 5 PGEC1/AN3/C1INC/C2INA/U2RX/OC3/CTED12/CN5/RB1 (io), 6 AN4/SDA2/T5CK/T4CK/U1RX/CTED13/CN6/RB2 (io), 7 OSCI/AN13/C1INB/C2IND/CLKI/CN30/RA2 (io), 8 OSCO/AN14/C1INA/C2INC/CLKO/CN29/RA3 (io), 9 PGED3/SOSCI/AN15/~{U2RTS}/CN1/RB4 (io), 10 PGEC3/SOSCO/SCLKI/~{U2CTS}/CN0/RA4 (io), 11 U1TX/C2OUT/OC1/IC1/CTED1/INT0/CN23/RB7 (io), 12 SCL1/~{U1CTS}/C3OUT/CTED10/CN22/RB8 (io), 13 SDA1/T1CK/~{U1RTS}/IC2/CTED4/CN21/RB9 (io), 14 VCAP (power), 15 AN12/LVDIN/SCK1/~{SS2}/IC3/CTED2/INT2/CN14/RB12 (io), 16 AN11/SDO1/OCFB/CTPLS/CN13/RB13 (io), 17 CVREF/AN10/C3INB/RTCC/SDI1/C1OUT/OCFA/CTED5/INT1/CN12/RB14 (io), 18 AN9/C3INA/SCL2/T3CK/T2CK/REFO/~{SS1}/CTED6/CN11/RB15 (io), 19 VSS/AVSS (power), 20 VDD/AVDD (power)

## PIC24FV16KA302-E/SO
designator U?
General Purpose, 16-Bit Flash Microcontroller with XLP Technology, 16 MIPS, 24 I/O, -40 to 125 degC, 28-pin SOIC (SO28), Tube; Manufacturer: Microchip; PartNumber: PIC24FV16KA302-E/SO; DatasheetVersion: Rev. C; PackageVersion: C04-052C; PackageReference: SOIC-SO28; PackageDescription: 28-Lead Plastic Small Outline, 17.9 x 7.5 mm Body, 1.27 mm Pitch; Supplier 1: Digi-Key; Supplier Part Number 1: PIC24FV16KA302-E/SO-ND; Supplier 2: Mouser; Supplier Part Number 2: 579-24FV16KA302ESO; Mounting Technology: Surface Mount; ComponentLink1Description: Manufacturer URL; ComponentLink1URL: http://www.microchip.com; ComponentLink2Description: Datasheet; ComponentLink2URL: http://ww1.microchip.com/downloads/en/DeviceDoc/39995c.pdf; ComponentLink3Description: Package Specification; ComponentLink3URL: http://www.microchip.com/stellent/groups/techpub_sg/documents/packagingspec/en012702.pdf; ComponentLink4Description: Product URL; ComponentLink4URL: http://www.microchip.com/PIC24F16KA302
footprint MCHP-SOIC-SO28_N (SOIC, 28-Leads, Body 17.9x7.5mm, Pitch 1.27mm, IPC Medium Density)
footprint MCHP-SOIC-SO28_L (SOIC, 28-Leads, Body 17.9x7.5mm, Pitch 1.27mm, IPC High Density)
footprint MCHP-SOIC-SO28_M (SOIC, 28-Leads, Body 17.9x7.5mm, Pitch 1.27mm, IPC Low Density)
pins: 1 ~{MCLR}/VPP/RA5 (io), 2 VREF+/CVREF+/AN0/C3INC/CTED1/CN2/RA0 (io), 3 CVREF-/VREF-/AN1/CN3/RA1 (io), 4 PGED1/AN2/ULPWU/CTCMP/C1IND/C2INB/C3IND/U2TX/CN4/RB0 (io), 5 PGEC1/AN3/C1INC/C2INA/U2RX/CTED12/CN5/RB1 (io), 6 AN4/C1INB/C2IND/SDA2/T5CK/T4CK/U1RX/CTED13/CN6/RB2 (io), 7 AN5/C1INA/C2INC/SCL2/CN7/RB3 (io), 8 VSS (power) "Device Digital Ground Return", 9 OSCI/AN13/CLKI/CN30/RA2 (io), 10 OSCO/AN14/CLKO/CN29/RA3 (io), 11 SOSCI/AN15/~{U2RTS}/CN1/RB4 (io), 12 SOSCO/SCLKI/~{U2CTS}/CN0/RA4 (io), 13 VDD (power) "Device Digital Supply Voltage", 14 PGED3/ASDA/SCK2/CN27/RB5 (io), 15 PGEC3/ASCL/SDO2/CN24/RB6 (io), 16 U1TX/C2OUT/OC1/INT0/CN23/RB7 (io), 17 SCL1/~{U1CTS}/C3OUT/CTED10/CN22/RB8 (io), 18 SDA1/T1CK/~{U1RTS}/IC2/CTED4/CN21/RB9 (io), 19 SDI2/IC1/CTED3/CN9/RA7 (io), 20 VCAP "Core Power", 21 PGED2/SDI1/OC3/CTED11/CN16/RB10 (io), 22 PGEC2/SCK1/OC2/CTED9/CN15/RB11 (io), 23 AN12/HLVDIN/~{SS2}/IC3/CTED2/INT2/CN14/RB12 (io), 24 AN11/SDO1/OCFB/CTPLS/CN13/RB13 (io), 25 CVREF/AN10/C3INB/RTCC/C1OUT/OCFA/CTED5/INT1/CN12/RB14 (io), 26 AN9/C3INA/T3CK/T2CK/REFO/~{SS1}/CTED6/CN11/RB15 (io), 27 VSS/AVSS (power), 28 VDD/AVDD (power)

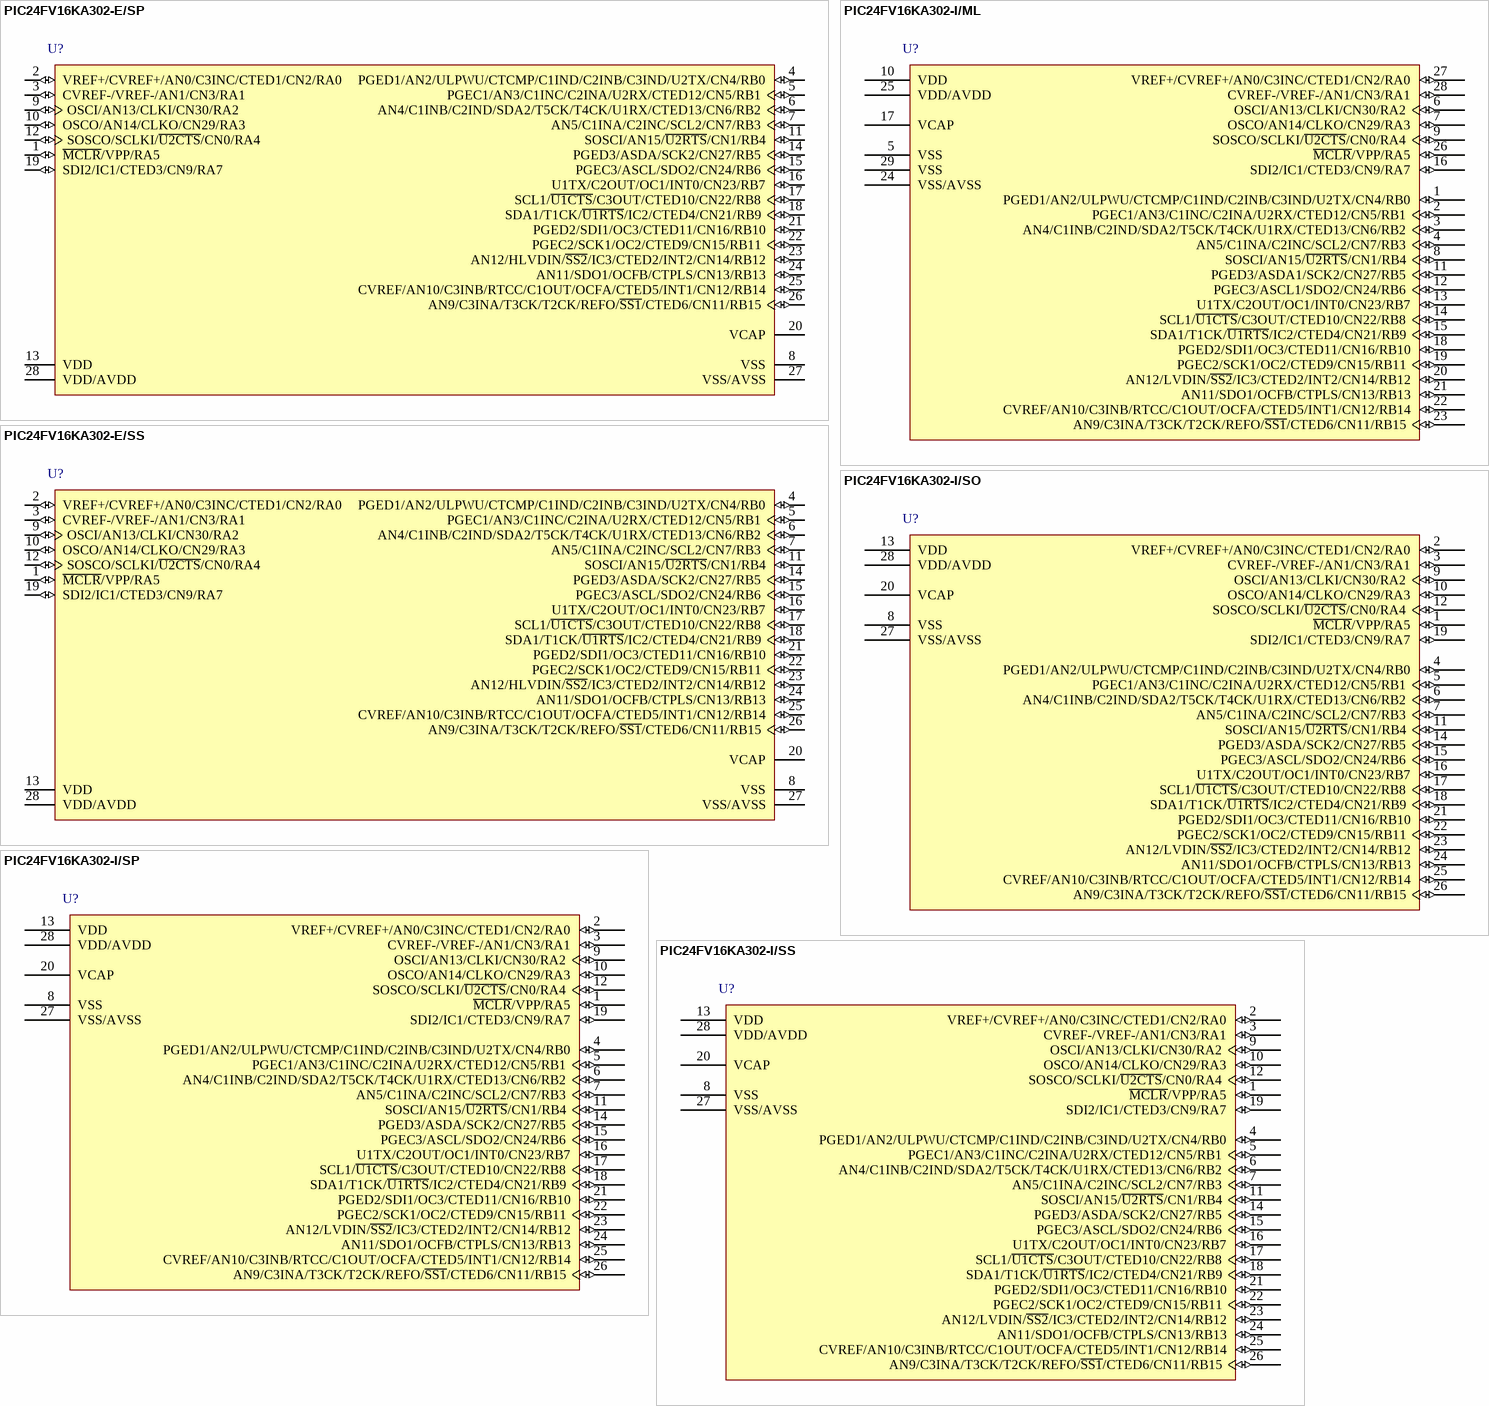
[diagram p119: symbols PIC24FV16KA302-E/SP to PIC24FV16KA302-I/SS]